# Altium schematic symbol library Texas Instruments.SchLib: 119 symbols
Pins are listed as number, name and electrical type; pins without a type are passive.

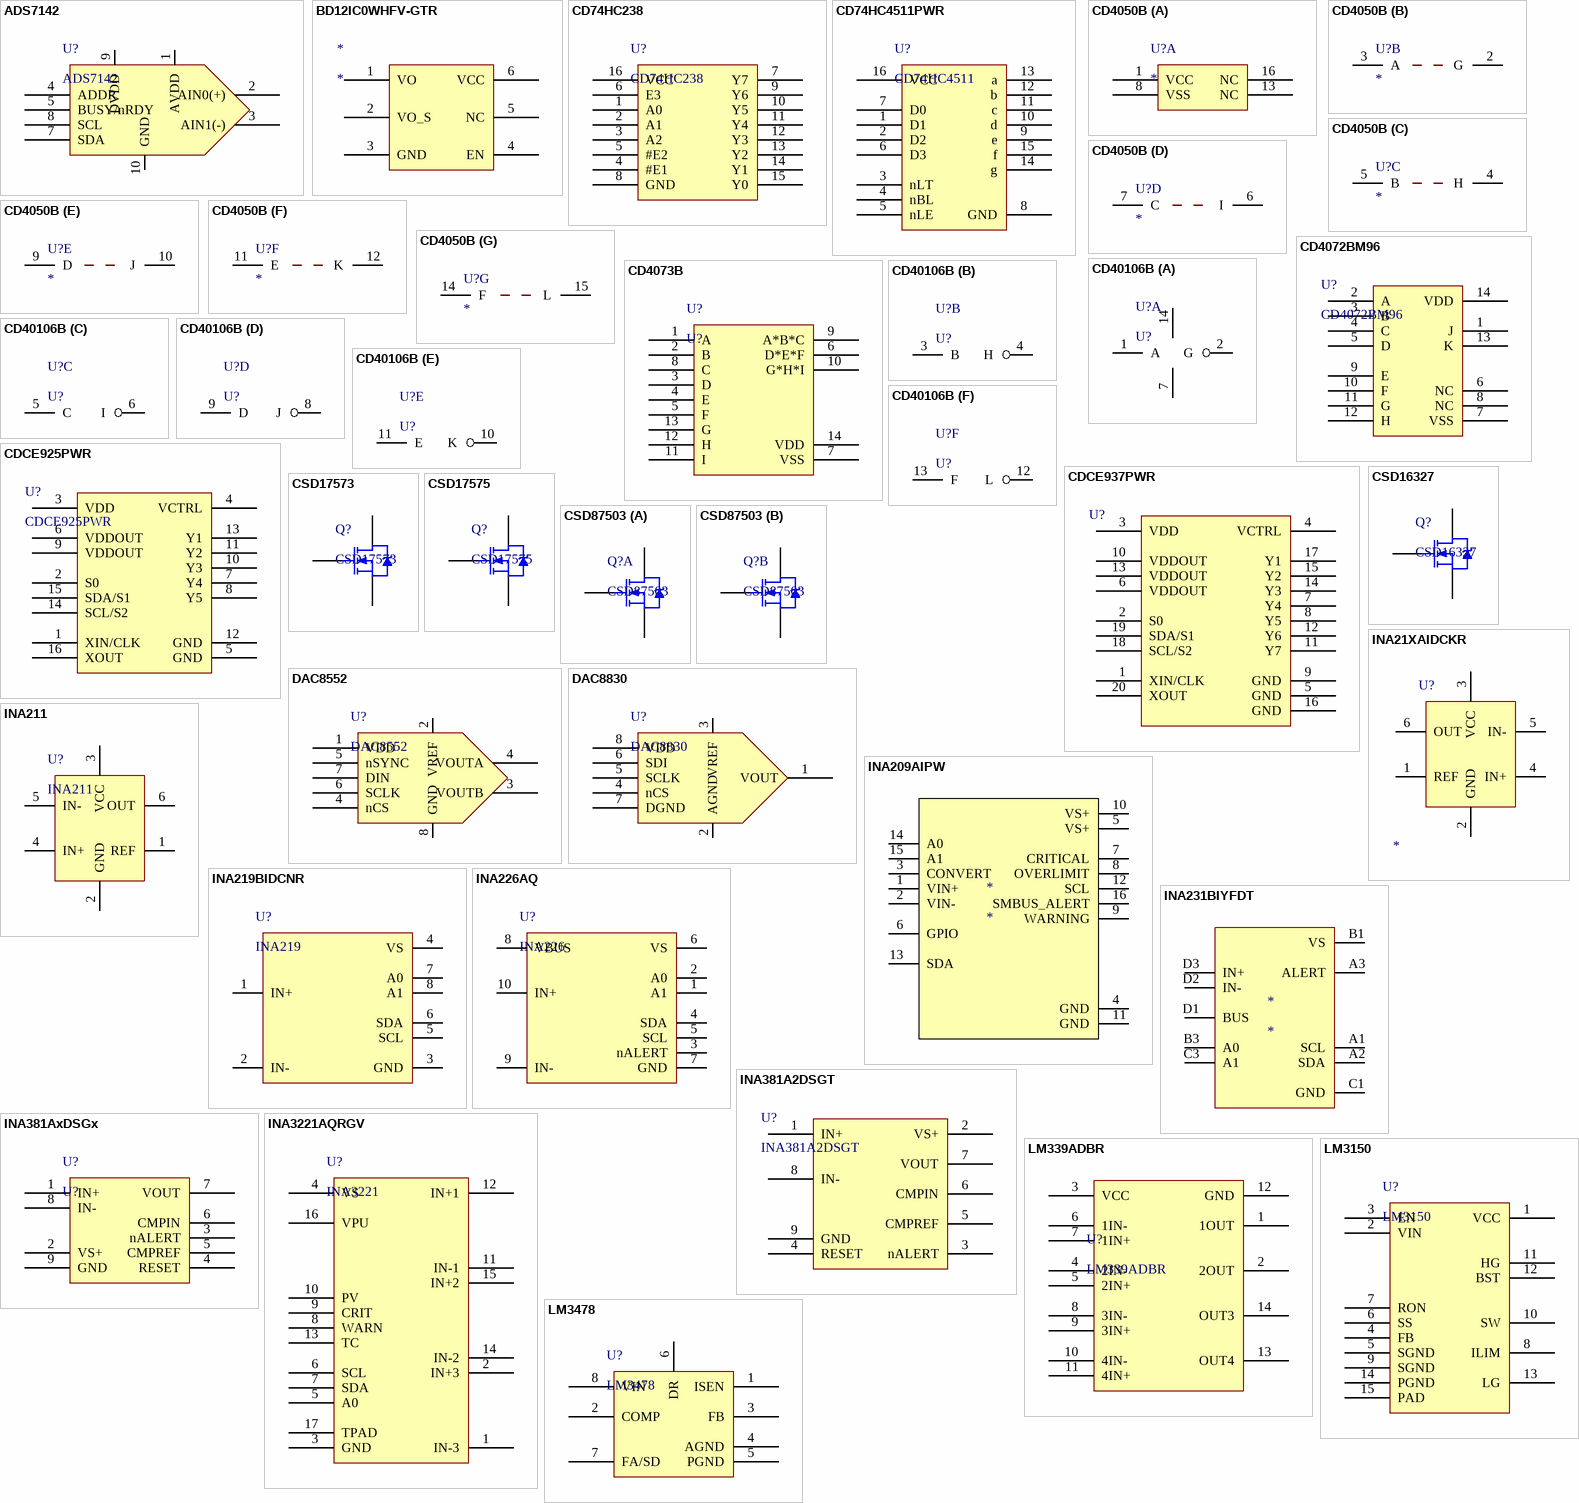
[diagram p0: symbols ADS7142 to LM3478]

## ADS7142
designator U?
pins: 1 AVDD, 2 AIN0(+), 3 AIN1(-), 4 ADDR, 5 BUSY/nRDY, 7 SDA, 8 SCL, 9 DVDD, 10 GND

## BD12IC0WHFV-GTR
designator *
pins: 1 VO, 2 VO_S, 3 GND, 4 EN, 5 NC, 6 VCC

## CD74HC238
designator U?
pins: 1 A0, 2 A1, 3 A2, 4 #E1, 5 #E2, 6 E3, 7 Y7, 8 GND, 9 Y6, 10 Y5, 11 Y4, 12 Y3, 13 Y2, 14 Y1, 15 Y0, 16 VCC

## CD74HC4511PWR
designator U?, comment CD74HC4511
pins: 1 D1, 2 D2, 3 nLT, 4 nBL, 5 nLE, 6 D3, 7 D0, 8 GND, 9 e, 10 d, 11 c, 12 b, 13 a, 14 g, 15 f, 16 VCC

## CD4050B
designator U?
part A pins: 1 VCC, 8 VSS, 13 NC, 16 NC
part B pins: 2 G, 3 A
part C pins: 4 H, 5 B
part D pins: 6 I, 7 C
part E pins: 9 D, 10 J
part F pins: 11 E, 12 K
part G pins: 14 F, 15 L

## CD4072BM96
designator U?
pins: 1 J, 2 A, 3 B, 4 C, 5 D, 6 NC, 7 VSS, 8 NC, 9 E, 10 F, 11 G, 12 H, 13 K, 14 VDD

## CD4073B
designator U?, comment U?
pins: 1 A, 2 B, 3 D, 4 E, 5 F, 6 D*E*F, 7 VSS, 8 C, 9 A*B*C, 10 G*H*I, 11 I, 12 H, 13 G, 14 VDD

## CD40106B
designator U?, comment U?
part A pins: 1 A, 2 G, 7 VSS, 14 VDD
part B pins: 3 B, 4 H
part C pins: 5 C, 6 I
part D pins: 8 J, 9 D
part E pins: 10 K, 11 E
part F pins: 12 L, 13 F

## CDCE925PWR
designator U?
pins: 1 XIN/CLK, 2 S0, 3 VDD, 4 VCTRL, 5 GND, 6 VDDOUT, 7 Y4, 8 Y5, 9 VDDOUT, 10 Y3, 11 Y2, 12 GND, 13 Y1, 14 SCL/S2, 15 SDA/S1, 16 XOUT

## CDCE937PWR
designator U?  (value not drawn)
pins: 1 XIN/CLK, 2 S0, 3 VDD, 4 VCTRL, 5 GND, 6 VDDOUT, 7 Y4, 8 Y5, 9 GND, 10 VDDOUT, 11 Y7, 12 Y6, 13 VDDOUT, 14 Y3, 15 Y2, 16 GND, 17 Y1, 18 SCL/S2, 19 SDA/S1, 20 XOUT

## CSD16327
designator Q?
pins: 1 G, 2 D, 3 S

## CSD17573
designator Q?
pins: 1 G, 2 D, 3 S

## CSD17575
designator Q?
pins: 1 G, 2 D, 3 S

## CSD87503
designator Q?
part A pins: 1 G, 2 S, 6 D
part B pins: 3 G, 4 S, 5 D

## DAC8552
designator U?
pins: 1 VDD, 2 VREF, 3 VOUTB, 4 VOUTA, 4 nCS, 5 nSYNC, 6 SCLK, 7 DIN, 8 GND

## DAC8830
designator U?
pins: 1 VOUT, 2 AGND, 3 VREF, 4 nCS, 5 SCLK, 6 SDI, 7 DGND, 8 VDD

## INA21XAIDCKR
designator U?
Value: *
pins: 1 REF, 2 GND, 3 VCC, 4 IN+, 5 IN-, 6 OUT

## INA209AIPW
designator *
pins: 1 VIN+, 2 VIN-, 3 CONVERT, 4 GND (power), 5 VS+ (power), 6 GPIO, 7 CRITICAL, 8 OVERLIMIT, 9 WARNING, 10 VS+ (power), 11 GND (power), 12 SCL, 13 SDA, 14 A0, 15 A1, 16 SMBUS_ALERT

## INA211
designator U?
pins: 1 REF, 2 GND, 3 VCC, 4 IN+, 5 IN-, 6 OUT

## INA219BIDCNR
designator U?, comment INA219
pins: 1 IN+, 2 IN-, 3 GND, 4 VS, 5 SCL, 6 SDA, 7 A0, 8 A1

## INA226AQ
designator U?, comment INA226
pins: 1 A1, 2 A0, 3 nALERT, 4 SDA, 5 SCL, 6 VS, 7 GND, 8 VBUS, 9 IN-, 10 IN+

## INA231BIYFDT
designator *
pins: A1 SCL, A2 SDA, A3 ALERT, B1 VS (power), B3 A0, C1 GND (power), C3 A1, D1 BUS, D2 IN-, D3 IN+

## INA381A2DSGT
designator U?
pins: 1 IN+, 2 VS+, 3 nALERT, 4 RESET, 5 CMPREF, 6 CMPIN, 7 VOUT, 8 IN-, 9 GND

## INA381AxDSGx
designator U?, comment U?
pins: 1 IN+, 2 VS+, 3 nALERT, 4 RESET, 5 CMPREF, 6 CMPIN, 7 VOUT, 8 IN-, 9 GND

## INA3221AQRGV
designator U?, comment INA3221
pins: 1 IN-3, 2 IN+3, 3 GND, 4 VS, 5 A0, 6 SCL, 7 SDA, 8 WARN, 9 CRIT, 10 PV, 11 IN-1, 12 IN+1, 13 TC, 14 IN-2, 15 IN+2, 16 VPU, 17 TPAD

## LM339ADBR
designator U?
pins: 1 1OUT, 2 2OUT, 3 VCC, 4 2IN-, 5 2IN+, 6 1IN-, 7 1IN+, 8 3IN-, 9 3IN+, 10 4IN-, 11 4IN+, 12 GND, 13 OUT4, 14 OUT3

## LM3150
designator U?
pins: 1 VCC, 2 VIN, 3 EN, 4 FB, 5 SGND, 6 SS, 7 RON, 8 ILIM, 9 SGND, 10 SW, 11 HG, 12 BST, 13 LG, 14 PGND, 15 PAD

## LM3478
designator U?
pins: 1 ISEN, 2 COMP, 3 FB, 4 AGND, 5 PGND, 6 DR, 7 FA/SD, 8 VIN

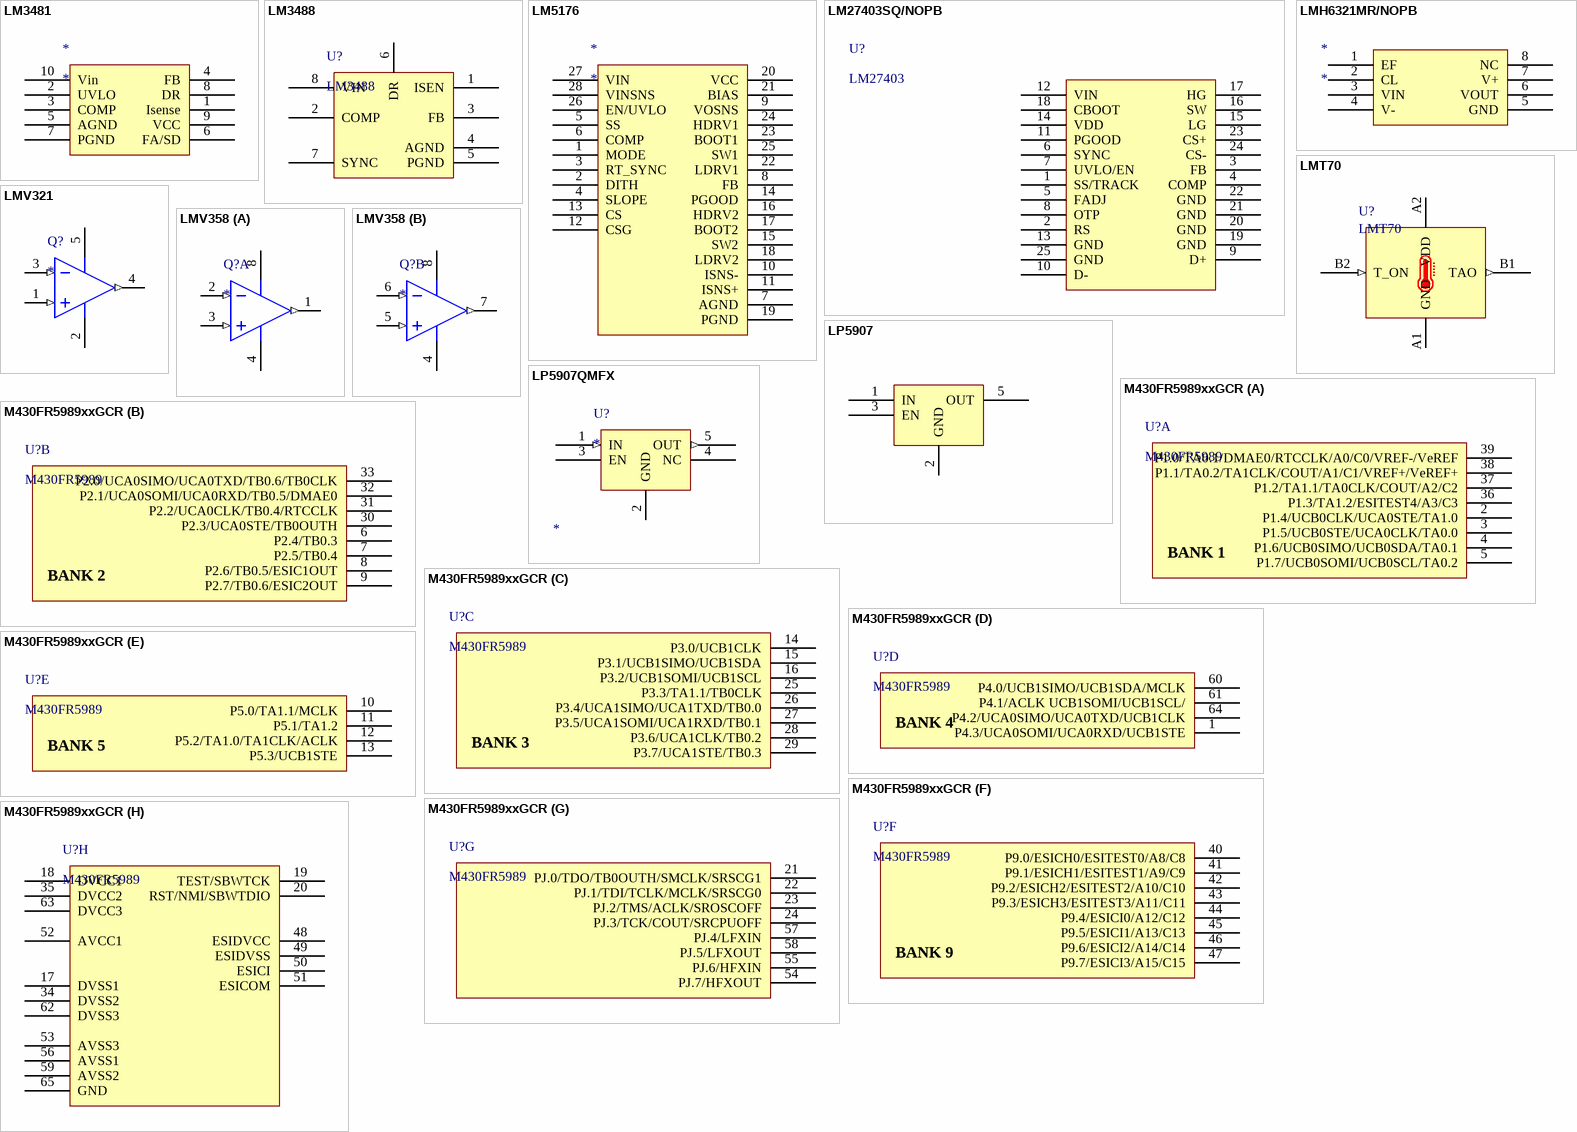
[diagram p1: symbols LM3481 to M430FR5989xxGCR]

## LM3481
designator *
pins: 1 Isense, 2 UVLO, 3 COMP, 4 FB, 5 AGND, 6 FA/SD, 7 PGND, 8 DR, 9 VCC, 10 Vin

## LM3488
designator U?
pins: 1 ISEN, 2 COMP, 3 FB, 4 AGND, 5 PGND, 6 DR, 7 SYNC, 8 VIN

## LM5176
designator *
pins: 1 MODE, 2 DITH, 3 RT_SYNC, 4 SLOPE, 5 SS, 6 COMP, 7 AGND, 8 FB, 9 VOSNS, 10 ISNS-, 11 ISNS+, 12 CSG, 13 CS, 14 PGOOD, 15 SW2, 16 HDRV2, 17 BOOT2, 18 LDRV2, 19 PGND, 20 VCC, 21 BIAS, 22 LDRV1, 23 BOOT1, 24 HDRV1, 25 SW1, 26 EN/UVLO, 27 VIN, 28 VINSNS

## LM27403SQ/NOPB
designator U?, comment LM27403
pins: 1 SS/TRACK, 2 RS, 3 FB, 4 COMP, 5 FADJ, 6 SYNC, 7 UVLO/EN, 8 OTP, 9 D+, 10 D-, 11 PGOOD, 12 VIN, 13 GND, 14 VDD, 15 LG, 16 SW, 17 HG, 18 CBOOT, 19 GND, 20 GND, 21 GND, 22 GND, 23 CS+, 24 CS-, 25 GND

## LMH6321MR/NOPB
designator *
pins: 1 EF, 2 CL, 3 VIN, 4 V-, 5 GND, 6 VOUT, 7 V+, 8 NC

## LMT70
designator U?
pins: A1 GND (power), A2 VDD (power), B1 TAO (out), B2 T_ON (in)

## LMV321
designator Q?
pins: 1 IN+ (in), 2 V- (power), 3 IN- (in), 4 OUT (out), 5 V+ (power)

## LMV358
designator Q?
part A pins: 1 OUT (out), 2 IN- (in), 3 IN+ (in), 4 V- (power), 8 V+ (power)
part B pins: 4 V- (power), 5 IN+ (in), 6 IN- (in), 7 OUT (out), 8 V+ (power)

## LP5907
designator U?
pins: 1 IN, 2 GND, 3 EN, 4 NC hidden to GND, 5 OUT

## LP5907QMFX
designator U?
Voltage - Dropout (Typical): *; Value: *
pins: 1 IN (in), 2 GND, 3 EN "Active High", 4 NC, 5 OUT (out)

## M430FR5989xxGCR
designator U?, comment M430FR5989
part A pins: 2 P1.4/UCB0CLK/UCA0STE/TA1.0, 3 P1.5/UCB0STE/UCA0CLK/TA0.0, 4 P1.6/UCB0SIMO/UCB0SDA/TA0.1, 5 P1.7/UCB0SOMI/UCB0SCL/TA0.2, 36 P1.3/TA1.2/ESITEST4/A3/C3, 37 P1.2/TA1.1/TA0CLK/COUT/A2/C2, 38 P1.1/TA0.2/TA1CLK/COUT/A1/C1/VREF+/VeREF+, 39 P1.0/TA0.1/DMAE0/RTCCLK/A0/C0/VREF-/VeREF
part B pins: 6 P2.4/TB0.3, 7 P2.5/TB0.4, 8 P2.6/TB0.5/ESIC1OUT, 9 P2.7/TB0.6/ESIC2OUT, 30 P2.3/UCA0STE/TB0OUTH, 31 P2.2/UCA0CLK/TB0.4/RTCCLK, 32 P2.1/UCA0SOMI/UCA0RXD/TB0.5/DMAE0, 33 P2.0/UCA0SIMO/UCA0TXD/TB0.6/TB0CLK
part C pins: 14 P3.0/UCB1CLK, 15 P3.1/UCB1SIMO/UCB1SDA, 16 P3.2/UCB1SOMI/UCB1SCL, 25 P3.3/TA1.1/TB0CLK, 26 P3.4/UCA1SIMO/UCA1TXD/TB0.0, 27 P3.5/UCA1SOMI/UCA1RXD/TB0.1, 28 P3.6/UCA1CLK/TB0.2, 29 P3.7/UCA1STE/TB0.3
part D pins: 1 P4.3/UCA0SOMI/UCA0RXD/UCB1STE, 60 P4.0/UCB1SIMO/UCB1SDA/MCLK, 61 P4.1/ACLK UCB1SOMI/UCB1SCL/, 64 P4.2/UCA0SIMO/UCA0TXD/UCB1CLK
part E pins: 10 P5.0/TA1.1/MCLK, 11 P5.1/TA1.2, 12 P5.2/TA1.0/TA1CLK/ACLK, 13 P5.3/UCB1STE
part F pins: 40 P9.0/ESICH0/ESITEST0/A8/C8, 41 P9.1/ESICH1/ESITEST1/A9/C9, 42 P9.2/ESICH2/ESITEST2/A10/C10, 43 P9.3/ESICH3/ESITEST3/A11/C11, 44 P9.4/ESICI0/A12/C12, 45 P9.5/ESICI1/A13/C13, 46 P9.6/ESICI2/A14/C14, 47 P9.7/ESICI3/A15/C15
part G pins: 21 PJ.0/TDO/TB0OUTH/SMCLK/SRSCG1, 22 PJ.1/TDI/TCLK/MCLK/SRSCG0, 23 PJ.2/TMS/ACLK/SROSCOFF, 24 PJ.3/TCK/COUT/SRCPUOFF, 54 PJ.7/HFXOUT, 55 PJ.6/HFXIN, 57 PJ.4/LFXIN, 58 PJ.5/LFXOUT
part H pins: 17 DVSS1, 18 DVCC1, 19 TEST/SBWTCK, 20 RST/NMI/SBWTDIO, 34 DVSS2, 35 DVCC2, 48 ESIDVCC, 49 ESIDVSS, 50 ESICI, 51 ESICOM, 52 AVCC1, 53 AVSS3, 56 AVSS1, 59 AVSS2, 62 DVSS3, 63 DVCC3, 65 GND
part A text: BANK 1
part B text: BANK 2
part C text: BANK 3
part D text: BANK 4
part E text: BANK 5
part F text: BANK 9

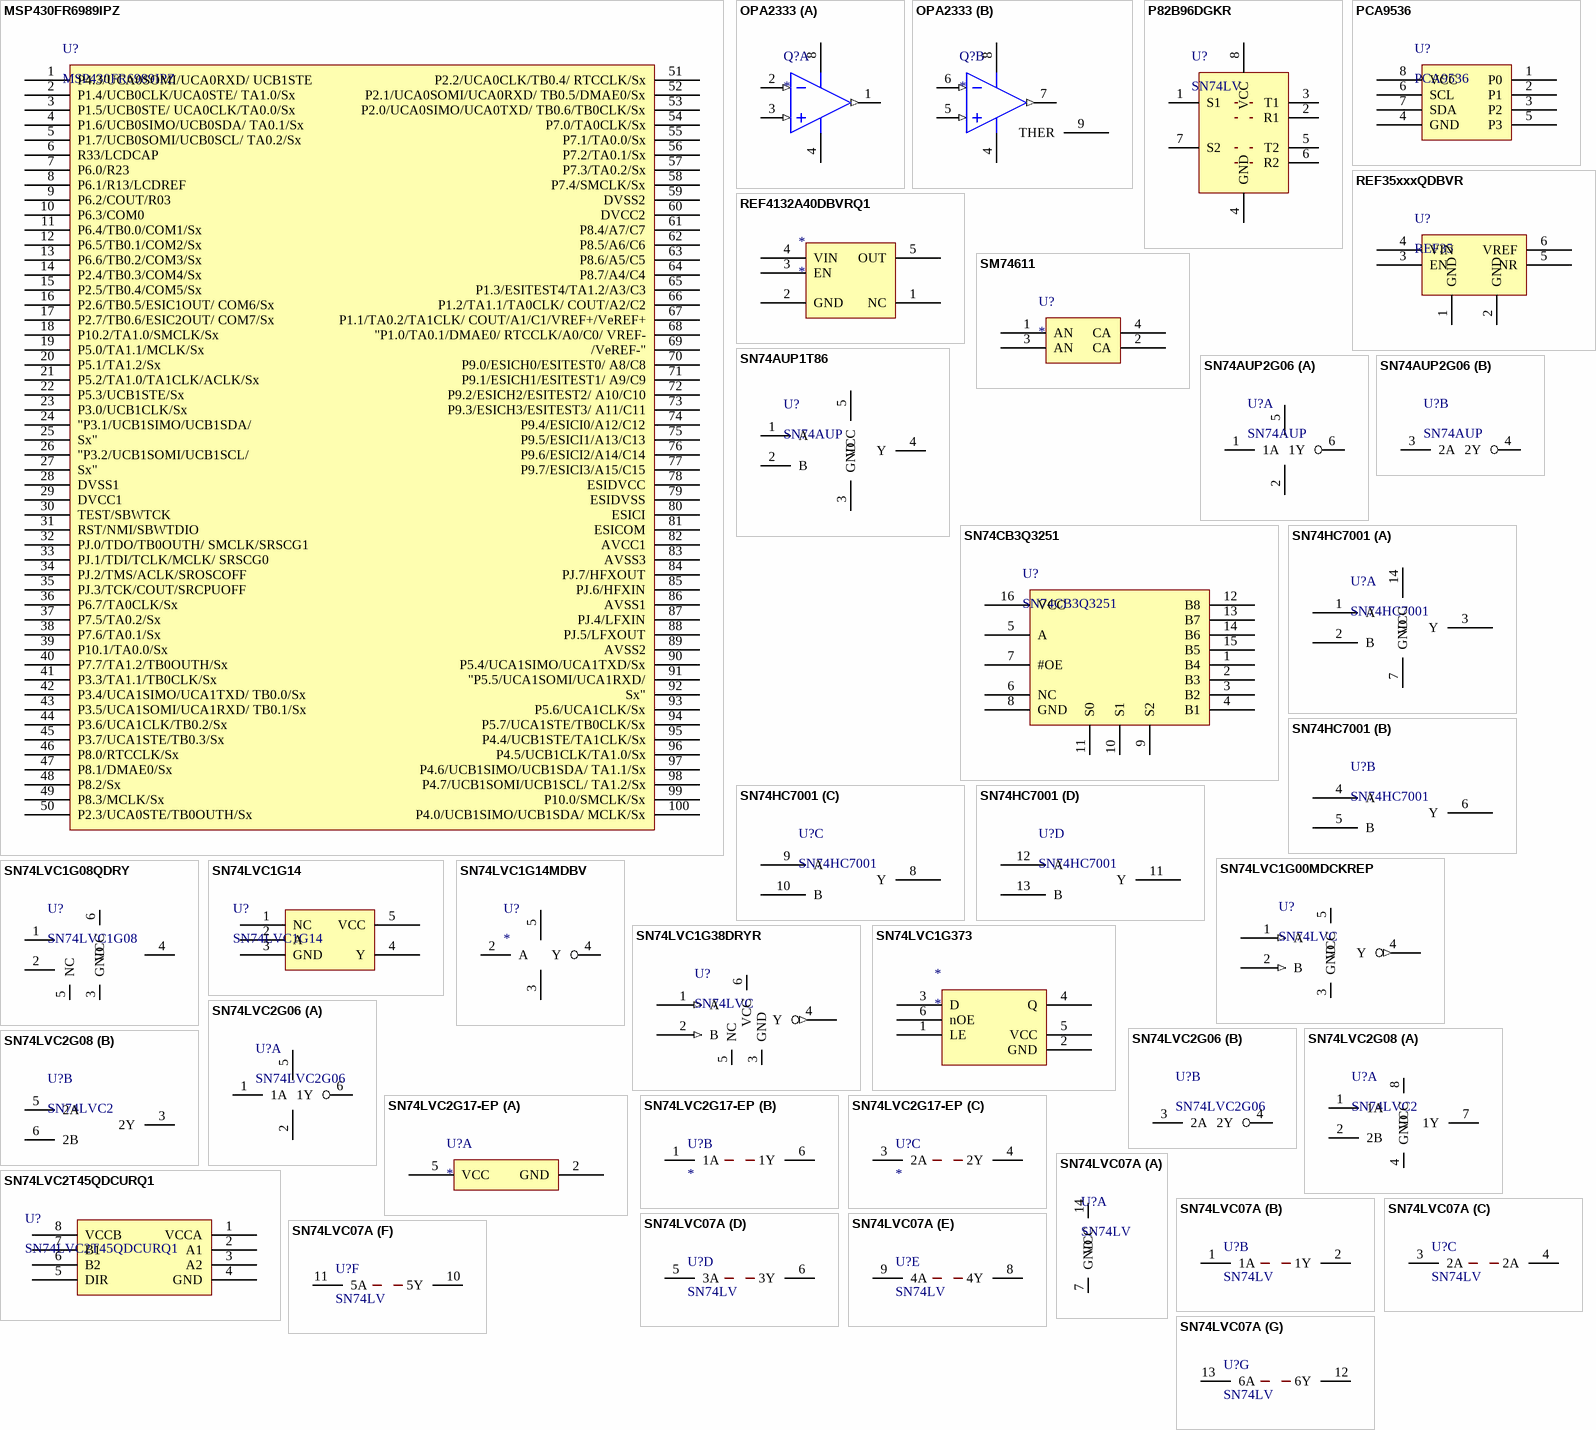
[diagram p2: symbols MSP430FR6989IPZ to SN74LVC07A]

## MSP430FR6989IPZ
designator U?
pins: 1 P4.3/UCA0SOMI/UCA0RXD/ UCB1STE, 2 P1.4/UCB0CLK/UCA0STE/ TA1.0/Sx, 3 P1.5/UCB0STE/ UCA0CLK/TA0.0/Sx, 4 P1.6/UCB0SIMO/UCB0SDA/ TA0.1/Sx, 5 P1.7/UCB0SOMI/UCB0SCL/ TA0.2/Sx, 6 R33/LCDCAP, 7 P6.0/R23, 8 P6.1/R13/LCDREF, 9 P6.2/COUT/R03, 10 P6.3/COM0, 11 P6.4/TB0.0/COM1/Sx, 12 P6.5/TB0.1/COM2/Sx, 13 P6.6/TB0.2/COM3/Sx, 14 P2.4/TB0.3/COM4/Sx, 15 P2.5/TB0.4/COM5/Sx, 16 P2.6/TB0.5/ESIC1OUT/ COM6/Sx, 17 P2.7/TB0.6/ESIC2OUT/ COM7/Sx, 18 P10.2/TA1.0/SMCLK/Sx, 19 P5.0/TA1.1/MCLK/Sx, 20 P5.1/TA1.2/Sx, 21 P5.2/TA1.0/TA1CLK/ACLK/Sx, 22 P5.3/UCB1STE/Sx, 23 P3.0/UCB1CLK/Sx, 24 "P3.1/UCB1SIMO/UCB1SDA/, 25 Sx", 26 "P3.2/UCB1SOMI/UCB1SCL/, 27 Sx", 28 DVSS1, 29 DVCC1, 30 TEST/SBWTCK, 31 RST/NMI/SBWTDIO, 32 PJ.0/TDO/TB0OUTH/ SMCLK/SRSCG1, 33 PJ.1/TDI/TCLK/MCLK/ SRSCG0, 34 PJ.2/TMS/ACLK/SROSCOFF, 35 PJ.3/TCK/COUT/SRCPUOFF, 36 P6.7/TA0CLK/Sx, 37 P7.5/TA0.2/Sx, 38 P7.6/TA0.1/Sx, 39 P10.1/TA0.0/Sx, 40 P7.7/TA1.2/TB0OUTH/Sx, 41 P3.3/TA1.1/TB0CLK/Sx, 42 P3.4/UCA1SIMO/UCA1TXD/ TB0.0/Sx, 43 P3.5/UCA1SOMI/UCA1RXD/ TB0.1/Sx, 44 P3.6/UCA1CLK/TB0.2/Sx, 45 P3.7/UCA1STE/TB0.3/Sx, 46 P8.0/RTCCLK/Sx, 47 P8.1/DMAE0/Sx, 48 P8.2/Sx, 49 P8.3/MCLK/Sx, 50 P2.3/UCA0STE/TB0OUTH/Sx, 51 P2.2/UCA0CLK/TB0.4/ RTCCLK/Sx, 52 P2.1/UCA0SOMI/UCA0RXD/ TB0.5/DMAE0/Sx, 53 P2.0/UCA0SIMO/UCA0TXD/ TB0.6/TB0CLK/Sx, 54 P7.0/TA0CLK/Sx, 55 P7.1/TA0.0/Sx, 56 P7.2/TA0.1/Sx, 57 P7.3/TA0.2/Sx, 58 P7.4/SMCLK/Sx, 59 DVSS2, 60 DVCC2, 61 P8.4/A7/C7, 62 P8.5/A6/C6, 63 P8.6/A5/C5, 64 P8.7/A4/C4, 65 P1.3/ESITEST4/TA1.2/A3/C3, 66 P1.2/TA1.1/TA0CLK/ COUT/A2/C2, 67 P1.1/TA0.2/TA1CLK/ COUT/A1/C1/VREF+/VeREF+, 68 "P1.0/TA0.1/DMAE0/ RTCCLK/A0/C0/ VREF-, 69 /VeREF-", 70 P9.0/ESICH0/ESITEST0/ A8/C8, 71 P9.1/ESICH1/ESITEST1/ A9/C9, 72 P9.2/ESICH2/ESITEST2/ A10/C10, 73 P9.3/ESICH3/ESITEST3/ A11/C11, 74 P9.4/ESICI0/A12/C12, 75 P9.5/ESICI1/A13/C13, 76 P9.6/ESICI2/A14/C14, 77 P9.7/ESICI3/A15/C15, 78 ESIDVCC, 79 ESIDVSS, 80 ESICI, 81 ESICOM, 82 AVCC1, 83 AVSS3, 84 PJ.7/HFXOUT, 85 PJ.6/HFXIN, 86 AVSS1, 87 PJ.4/LFXIN, 88 PJ.5/LFXOUT, 89 AVSS2, 90 P5.4/UCA1SIMO/UCA1TXD/Sx, 91 "P5.5/UCA1SOMI/UCA1RXD/, 92 Sx", 93 P5.6/UCA1CLK/Sx, 94 P5.7/UCA1STE/TB0CLK/Sx, 95 P4.4/UCB1STE/TA1CLK/Sx, 96 P4.5/UCB1CLK/TA1.0/Sx, 97 P4.6/UCB1SIMO/UCB1SDA/ TA1.1/Sx, 98 P4.7/UCB1SOMI/UCB1SCL/ TA1.2/Sx, 99 P10.0/SMCLK/Sx, 100 P4.0/UCB1SIMO/UCB1SDA/ MCLK/Sx

## OPA2333
designator Q?
part A pins: 1 OUT (out), 2 IN- (in), 3 IN+ (in), 4 V- (power), 8 V+ (power)
part B pins: 4 V- (power), 5 IN+ (in), 6 IN- (in), 7 OUT (out), 8 V+ (power), 9 THER

## P82B96DGKR
designator U?, comment SN74LV
pins: 1 S1, 2 R1, 3 T1, 4 GND, 5 T2, 6 R2, 7 S2, 8 VCC

## PCA9536
designator U?
pins: 1 P0, 2 P1, 3 P2, 4 GND, 5 P3, 6 SCL, 7 SDA, 8 VCC

## REF35xxxQDBVR
designator U?, comment REF35
pins: 1 GND, 2 GND, 3 EN, 4 VIN, 5 NR, 6 VREF

## REF4132A40DBVRQ1
designator *
pins: 1 NC, 2 GND, 3 EN, 4 VIN, 5 OUT

## SM74611
designator U?
pins: 1 AN, 2 CA, 3 AN, 4 CA

## SN74AUP1T86
designator U?, comment SN74AUP
pins: 1 A, 2 B, 3 GND, 4 Y, 5 VCC

## SN74AUP2G06
designator U?, comment SN74AUP
part A pins: 1 1A, 2 GND, 5 VCC, 6 1Y
part B pins: 3 2A, 4 2Y

## SN74CB3Q3251
designator U?
pins: 1 B4, 2 B3, 3 B2, 4 B1, 5 A, 6 NC, 7 #OE, 8 GND, 9 S2, 10 S1, 11 S0, 12 B8, 13 B7, 14 B6, 15 B5, 16 VCC

## SN74HC7001
designator U?
part A pins: 1 A, 2 B, 3 Y, 7 GND, 14 VCC
part B pins: 4 A, 5 B, 6 Y
part C pins: 8 Y, 9 A, 10 B
part D pins: 11 Y, 12 A, 13 B

## SN74LVC1G00MDCKREP
designator U?, comment SN74LVC
pins: 1 A (in), 2 B (in), 3 GND (power), 4 Y (out), 5 VCC (power)

## SN74LVC1G08QDRY
designator U?, comment SN74LVC1G08
pins: 1 A, 2 B, 3 GND, 4 Y, 5 NC, 6 VCC

## SN74LVC1G14
designator U?
pins: 1 NC, 2 A, 3 GND, 4 Y, 5 VCC

## SN74LVC1G14MDBV
designator U?
pins: 1 NC, 2 A, 3 GND, 4 Y, 5 VCC

## SN74LVC1G38DRYR
designator U?, comment SN74LVC
pins: 1 A (in), 2 B (in), 3 GND (power), 4 Y (out), 5 NC (power), 6 VCC (power)

## SN74LVC1G373
designator *
pins: 1 LE, 2 GND, 3 D, 4 Q, 5 VCC, 6 nOE

## SN74LVC2G06
designator U?
part A pins: 1 1A, 2 GND, 5 VCC, 6 1Y
part B pins: 3 2A, 4 2Y

## SN74LVC2G08
designator U?, comment SN74LVC2
part A pins: 1 1A, 2 2B, 4 GND, 7 1Y, 8 VCC
part B pins: 3 2Y, 5 2A, 6 2B

## SN74LVC2G17-EP
designator U?
part A pins: 2 GND, 5 VCC
part B pins: 1 1A, 6 1Y
part C pins: 3 2A, 4 2Y

## SN74LVC2T45QDCURQ1
designator U?
pins: 1 VCCA, 2 A1, 3 A2, 4 GND, 5 DIR, 6 B2, 7 B1, 8 VCCB

## SN74LVC07A
designator U?, comment SN74LV
part A pins: 7 GND, 14 VCC
part B pins: 1 1A, 2 1Y
part C pins: 3 2A, 4 2A
part D pins: 5 3A, 6 3Y
part E pins: 8 4Y, 9 4A
part F pins: 10 5Y, 11 5A
part G pins: 12 6Y, 13 6A

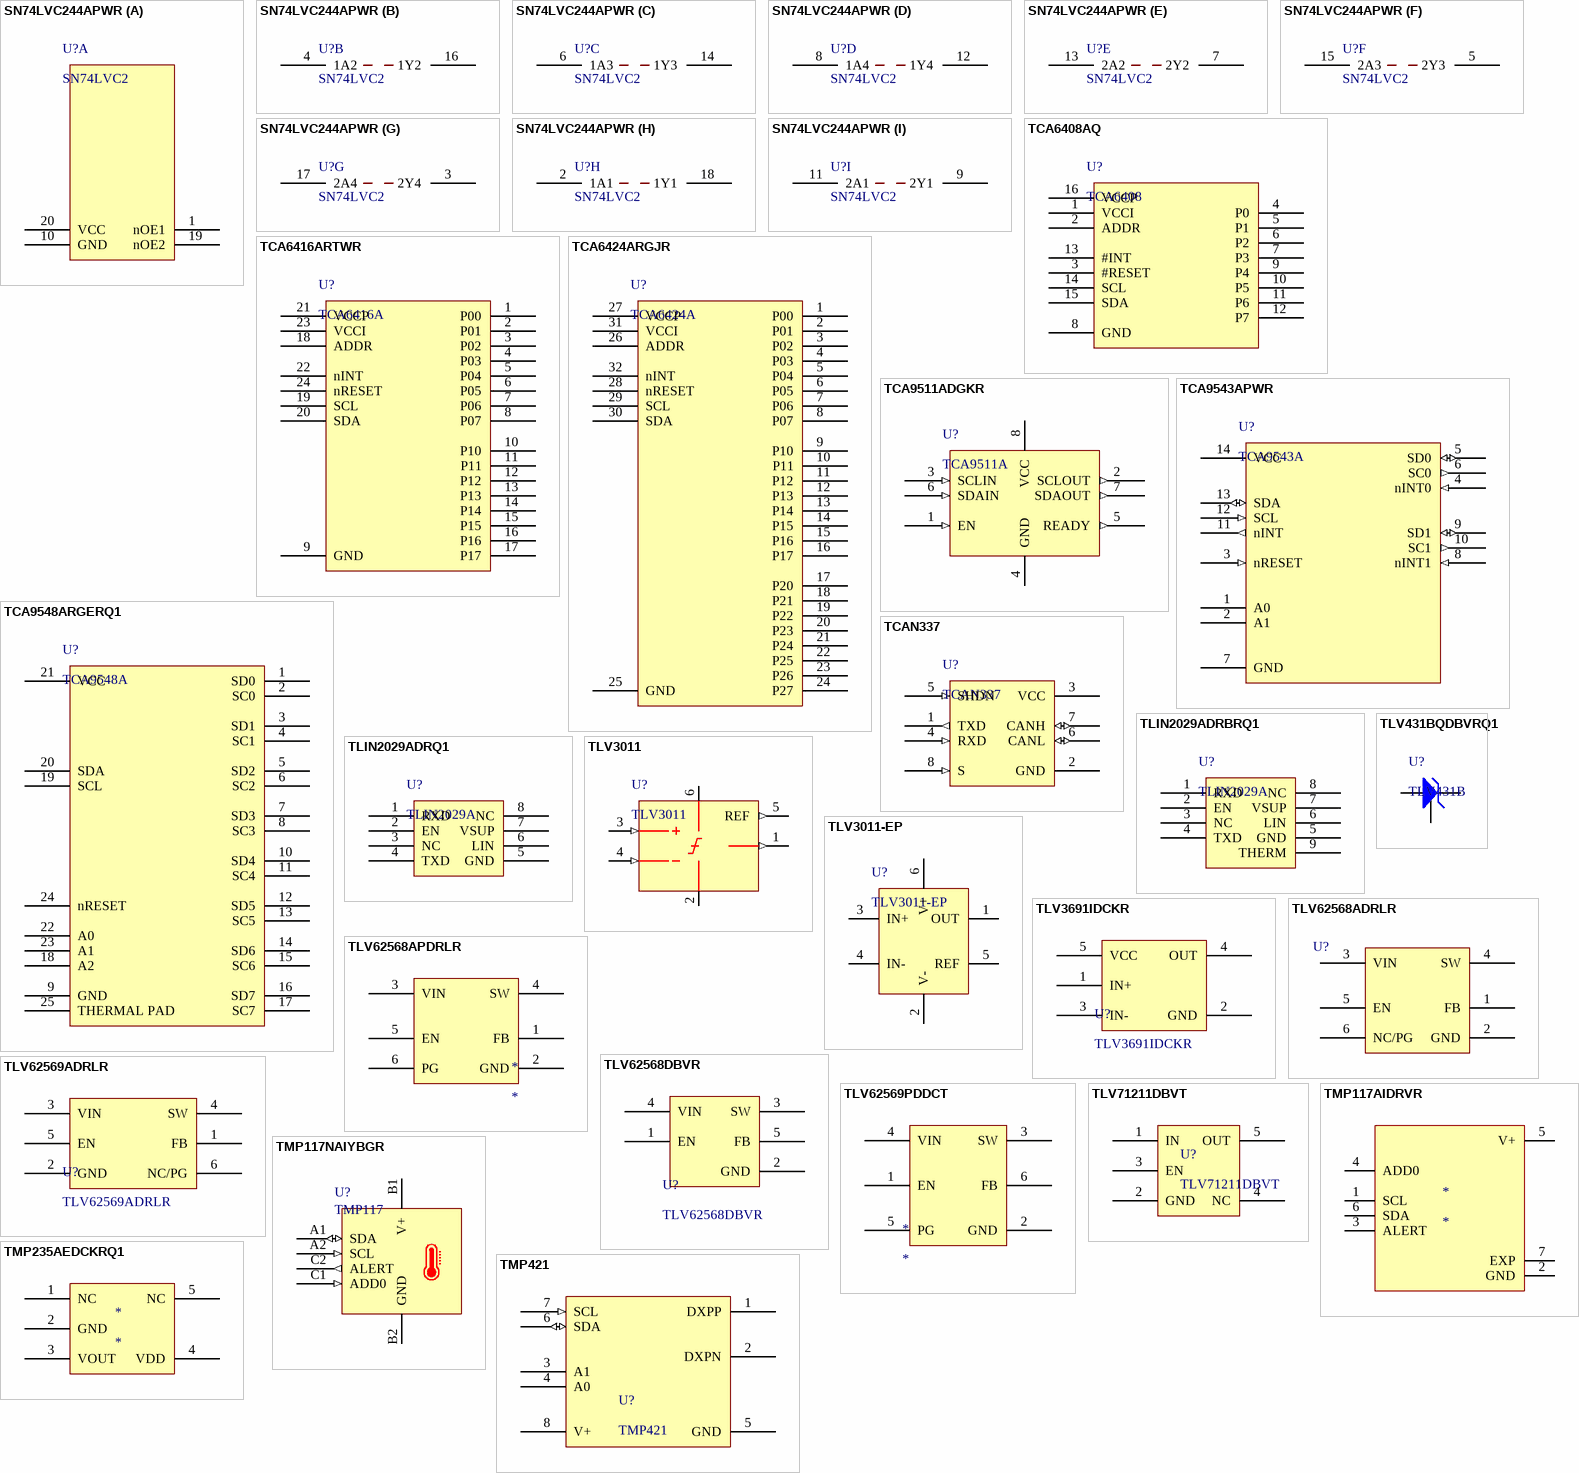
[diagram p3: symbols SN74LVC244APWR to TMP421]

## SN74LVC244APWR
designator U?, comment SN74LVC2
part A pins: 1 nOE1, 10 GND, 19 nOE2, 20 VCC
part B pins: 4 1A2, 16 1Y2
part C pins: 6 1A3, 14 1Y3
part D pins: 8 1A4, 12 1Y4
part E pins: 7 2Y2, 13 2A2
part F pins: 5 2Y3, 15 2A3
part G pins: 3 2Y4, 17 2A4
part H pins: 2 1A1, 18 1Y1
part I pins: 9 2Y1, 11 2A1

## TCA6408AQ
designator U?, comment TCA6408
pins: 1 VCCI, 2 ADDR, 3 #RESET, 4 P0, 5 P1, 6 P2, 7 P3, 8 GND, 9 P4, 10 P5, 11 P6, 12 P7, 13 #INT, 14 SCL, 15 SDA, 16 VCCP

## TCA6416ARTWR
designator U?, comment TCA6416A
pins: 1 P00, 2 P01, 3 P02, 4 P03, 5 P04, 6 P05, 7 P06, 8 P07, 9 GND, 10 P10, 11 P11, 12 P12, 13 P13, 14 P14, 15 P15, 16 P16, 17 P17, 18 ADDR, 19 SCL, 20 SDA, 21 VCCP, 22 nINT, 23 VCCI, 24 nRESET

## TCA6424ARGJR
designator U?, comment TCA6424A
pins: 1 P00, 2 P01, 3 P02, 4 P03, 5 P04, 6 P05, 7 P06, 8 P07, 9 P10, 10 P11, 11 P12, 12 P13, 13 P14, 14 P15, 15 P16, 16 P17, 17 P20, 18 P21, 19 P22, 20 P23, 21 P24, 22 P25, 23 P26, 24 P27, 25 GND, 26 ADDR, 27 VCCP, 28 nRESET, 29 SCL, 30 SDA, 31 VCCI, 32 nINT

## TCA9511ADGKR
designator U?, comment TCA9511A
pins: 1 EN (in), 2 SCLOUT (out), 3 SCLIN (in), 4 GND (power), 5 READY (out), 6 SDAIN (in), 7 SDAOUT (out), 8 VCC (power)

## TCA9543APWR
designator U?, comment TCA9543A
pins: 1 A0, 2 A1, 3 nRESET (in), 4 nINT0 (in), 5 SD0 (io), 6 SC0 (out), 7 GND (power), 8 nINT1 (in), 9 SD1 (io), 10 SC1 (out), 11 nINT (out), 12 SCL (in), 13 SDA (io), 14 VCC (power)

## TCA9548ARGERQ1
designator U?, comment TCA9548A
pins: 1 SD0, 2 SC0, 3 SD1, 4 SC1, 5 SD2, 6 SC2, 7 SD3, 8 SC3, 9 GND, 10 SD4, 11 SC4, 12 SD5, 13 SC5, 14 SD6, 15 SC6, 16 SD7, 17 SC7, 18 A2, 19 SCL, 20 SDA, 21 VCC, 22 A0, 23 A1, 24 nRESET, 25 THERMAL PAD

## TCAN337
designator U?
pins: 1 TXD (out), 2 GND (power), 3 VCC (power), 4 RXD (in), 5 SHDN (in), 6 CANL (io), 7 CANH (io), 8 S (in)

## TLIN2029ADRBRQ1
designator U?, comment TLIN2029A
pins: 1 RXD, 2 EN, 3 NC, 4 TXD, 5 GND, 6 LIN, 7 VSUP, 8 NC, 9 THERM

## TLIN2029ADRQ1
designator U?, comment TLIN2029A
pins: 1 RXD, 2 EN, 3 NC, 4 TXD, 5 GND, 6 LIN, 7 VSUP, 8 NC

## TLV431BQDBVRQ1
designator U?, comment TLV431B
pins: 1 NC, 2 ANODE, 3 CATHODE, 4 REF, 5 ANODE

## TLV3011
designator U?
pins: 1 OUT (out), 2 V- (power), 3 IN+ (in), 4 IN- (in), 5 REF (out), 6 V+ (power)

## TLV3011-EP
designator U?
pins: 1 OUT, 2 V-, 3 IN+, 4 IN-, 5 REF, 6 V+

## TLV3691IDCKR
designator U?
pins: 1 IN+, 2 GND, 3 IN-, 4 OUT, 5 VCC

## TLV62568ADRLR
designator U?  (value not drawn)
pins: 1 FB, 2 GND, 3 VIN, 4 SW, 5 EN, 6 NC/PG

## TLV62568APDRLR
designator *
pins: 1 FB, 2 GND, 3 VIN, 4 SW, 5 EN, 6 PG

## TLV62568DBVR
designator U?
pins: 1 EN, 2 GND, 3 SW, 4 VIN, 5 FB

## TLV62569ADRLR
designator U?
pins: 1 FB, 2 GND, 3 VIN, 4 SW, 5 EN, 6 NC/PG

## TLV62569PDDCT
designator *
pins: 1 EN, 2 GND, 3 SW, 4 VIN, 5 PG, 6 FB

## TLV71211DBVT
designator U?
pins: 1 IN, 2 GND, 3 EN, 4 NC, 5 OUT

## TMP117AIDRVR
designator *
pins: 1 SCL, 2 GND (power), 3 ALERT, 4 ADD0, 5 V+ (power), 6 SDA, 7 EXP (power)

## TMP117NAIYBGR
designator U?, comment TMP117
pins: A1 SDA (io), A2 SCL (in), B1 V+ (power), B2 GND (power), C1 ADD0 (in), C2 ALERT (out)

## TMP235AEDCKRQ1
designator *
pins: 1 NC, 2 GND, 3 VOUT, 4 VDD, 5 NC

## TMP421
designator U?
footprint SOT-23-8 (TSOP, 8-Leads, Body 2.90x1.60mm, Pitch 0.65mm, IPC Medium Density)
pins: 1 DXPP, 2 DXPN, 3 A1, 4 A0, 5 GND (power), 6 SDA (io), 7 SCL (in), 8 V+ (power)

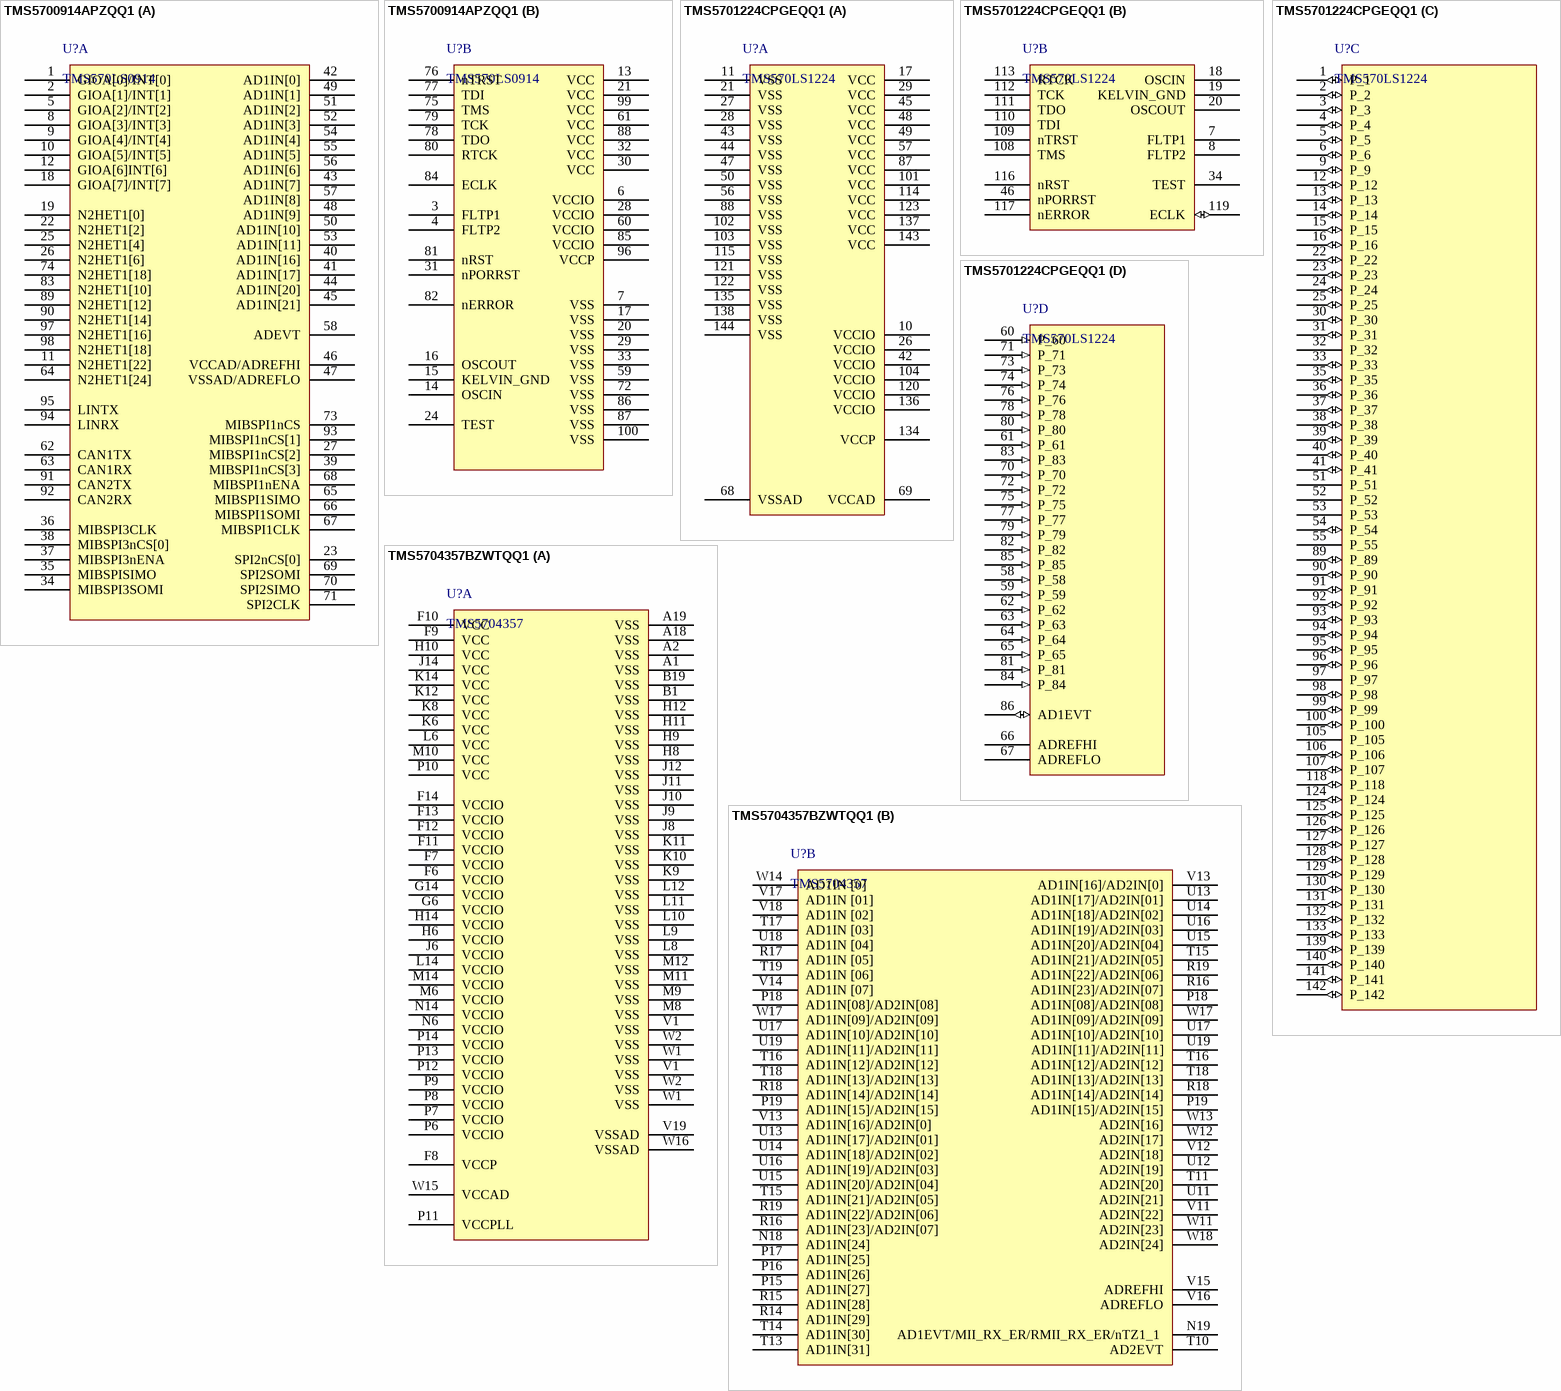
[diagram p4: symbols TMS5700914APZQQ1 to TMS5704357BZWTQQ1]

## TMS5700914APZQQ1
designator U?, comment TMS570LS0914
part A pins: 1 GIOA[0]/INT[0], 2 GIOA[1]/INT[1], 5 GIOA[2]/INT[2], 8 GIOA[3]/INT[3], 9 GIOA[4]/INT[4], 10 GIOA[5]/INT[5], 11 N2HET1[22], 12 GIOA[6]INT[6], 18 GIOA[7]/INT[7], 19 N2HET1[0], 22 N2HET1[2], 23 SPI2nCS[0], 25 N2HET1[4], 26 N2HET1[6], 27 MIBSPI1nCS[2], 34 MIBSPI3SOMI, 35 MIBSPISIMO, 36 MIBSPI3CLK, 37 MIBSPI3nENA, 38 MIBSPI3nCS[0], 39 MIBSPI1nCS[3], 40 AD1IN[16], 41 AD1IN[17], 42 AD1IN[0], 43 AD1IN[7], 44 AD1IN[20], 45 AD1IN[21], 46 VCCAD/ADREFHI, 47 VSSAD/ADREFLO, 48 AD1IN[9], 49 AD1IN[1], 50 AD1IN[10], 51 AD1IN[2], 52 AD1IN[3], 53 AD1IN[11], 54 AD1IN[4], 55 AD1IN[5], 56 AD1IN[6], 57 AD1IN[8], 58 ADEVT, 62 CAN1TX, 63 CAN1RX, 64 N2HET1[24], 65 MIBSPI1SIMO, 66 MIBSPI1SOMI, 67 MIBSPI1CLK, 68 MIBSPI1nENA, 69 SPI2SOMI, 70 SPI2SIMO, 71 SPI2CLK, 73 MIBSPI1nCS, 74 N2HET1[18], 83 N2HET1[10], 89 N2HET1[12], 90 N2HET1[14], 91 CAN2TX, 92 CAN2RX, 93 MIBSPI1nCS[1], 94 LINRX, 95 LINTX, 97 N2HET1[16], 98 N2HET1[18]
part B pins: 3 FLTP1, 4 FLTP2, 6 VCCIO, 7 VSS, 13 VCC, 14 OSCIN, 15 KELVIN_GND, 16 OSCOUT, 17 VSS, 20 VSS, 21 VCC, 24 TEST, 28 VCCIO, 29 VSS, 30 VCC, 31 nPORRST, 32 VCC, 33 VSS, 59 VSS, 60 VCCIO, 61 VCC, 72 VSS, 75 TMS, 76 nTRST, 77 TDI, 78 TDO, 79 TCK, 80 RTCK, 81 nRST, 82 nERROR, 84 ECLK, 85 VCCIO, 86 VSS, 87 VSS, 88 VCC, 96 VCCP, 99 VCC, 100 VSS

## TMS5701224CPGEQQ1
designator U?, comment TMS570LS1224
part A pins: 10 VCCIO (power), 11 VSS (power), 17 VCC (power), 21 VSS (power), 26 VCCIO (power), 27 VSS (power), 28 VSS (power), 29 VCC (power), 42 VCCIO (power), 43 VSS (power), 44 VSS (power), 45 VCC (power), 47 VSS (power), 48 VCC (power), 49 VCC (power), 50 VSS (power), 56 VSS (power), 57 VCC (power), 68 VSSAD (power), 69 VCCAD (power), 87 VCC (power), 88 VSS (power), 101 VCC (power), 102 VSS (power), 103 VSS (power), 104 VCCIO (power), 114 VCC (power), 115 VSS (power), 120 VCCIO (power), 121 VSS (power), 122 VSS (power), 123 VCC (power), 134 VCCP (power), 135 VSS (power), 136 VCCIO (power), 137 VCC (power), 138 VSS (power), 143 VCC (power), 144 VSS (power)
part B pins: 7 FLTP1, 8 FLTP2, 18 OSCIN, 19 KELVIN_GND, 20 OSCOUT, 34 TEST, 46 nPORRST, 108 TMS, 109 nTRST, 110 TDI, 111 TDO, 112 TCK, 113 RTCK, 116 nRST, 117 nERROR, 119 ECLK (io)
part C pins: 1 P_1 (io), 2 P_2 (io), 3 P_3 (io), 4 P_4 (io), 5 P_5 (io), 6 P_6 (io), 9 P_9 (io), 12 P_12 (io), 13 P_13 (io), 14 P_14 (io), 15 P_15 (io), 16 P_16 (io), 22 P_22 (io), 23 P_23 (io), 24 P_24 (io), 25 P_25 (io), 30 P_30 (io), 31 P_31 (io), 32 P_32, 33 P_33 (io), 35 P_35 (io), 36 P_36 (io), 37 P_37 (io), 38 P_38 (io), 39 P_39 (io), 40 P_40 (io), 41 P_41 (io), 51 P_51, 52 P_52, 53 P_53, 54 P_54 (io), 55 P_55, 89 P_89 (io), 90 P_90 (io), 91 P_91 (io), 92 P_92 (io), 93 P_93 (io), 94 P_94 (io), 95 P_95 (io), 96 P_96 (io), 97 P_97, 98 P_98 (io), 99 P_99 (io), 100 P_100 (io), 105 P_105, 106 P_106 (io), 107 P_107 (io), 118 P_118 (io), 124 P_124 (io), 125 P_125 (io), 126 P_126 (io), 127 P_127 (io), 128 P_128 (io), 129 P_129 (io), 130 P_130 (io), 131 P_131 (io), 132 P_132 (io), 133 P_133 (io), 139 P_139 (io), 140 P_140 (io), 141 P_141 (io), 142 P_142 (io)
part D pins: 58 P_58 (in), 59 P_59 (in), 60 P_60 (in), 61 P_61 (in), 62 P_62 (in), 63 P_63 (in), 64 P_64 (in), 65 P_65 (in), 66 ADREFHI (power), 67 ADREFLO (power), 70 P_70 (in), 71 P_71 (in), 72 P_72 (in), 73 P_73 (in), 74 P_74 (in), 75 P_75 (in), 76 P_76 (in), 77 P_77 (in), 78 P_78 (in), 79 P_79 (in), 80 P_80 (in), 81 P_81 (in), 82 P_82 (in), 83 P_83 (in), 84 P_84 (in), 85 P_85 (in), 86 AD1EVT (io)

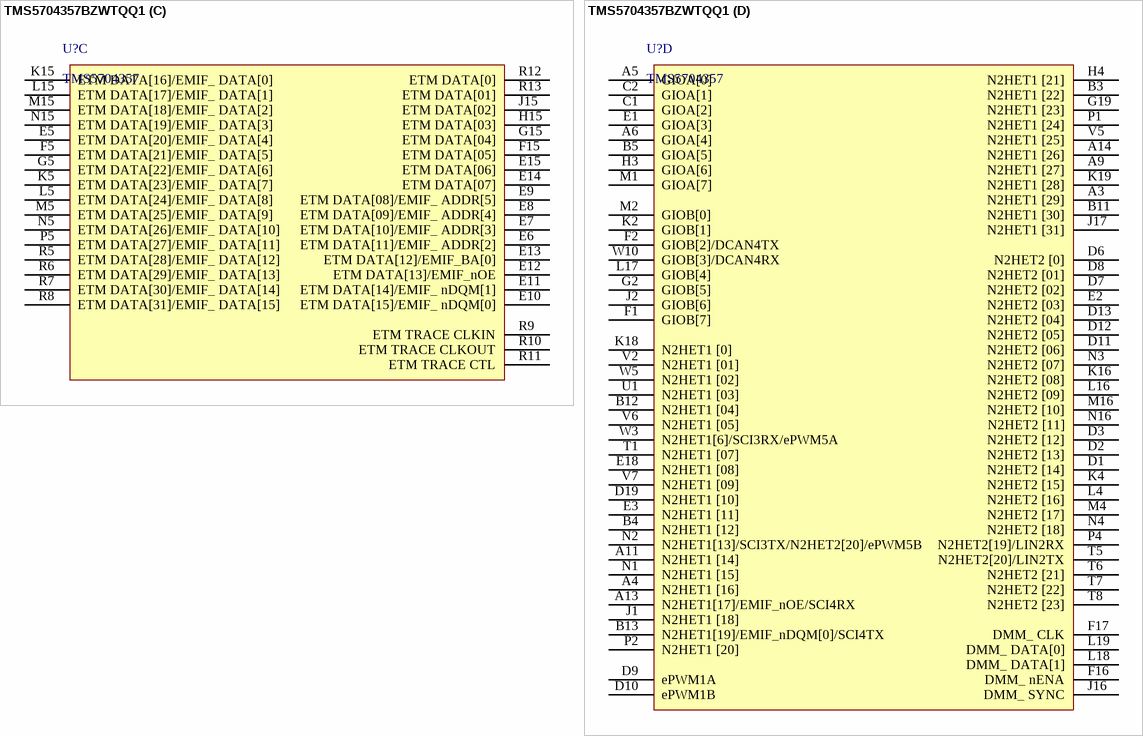
[diagram p5: symbol TMS5704357BZWTQQ1]

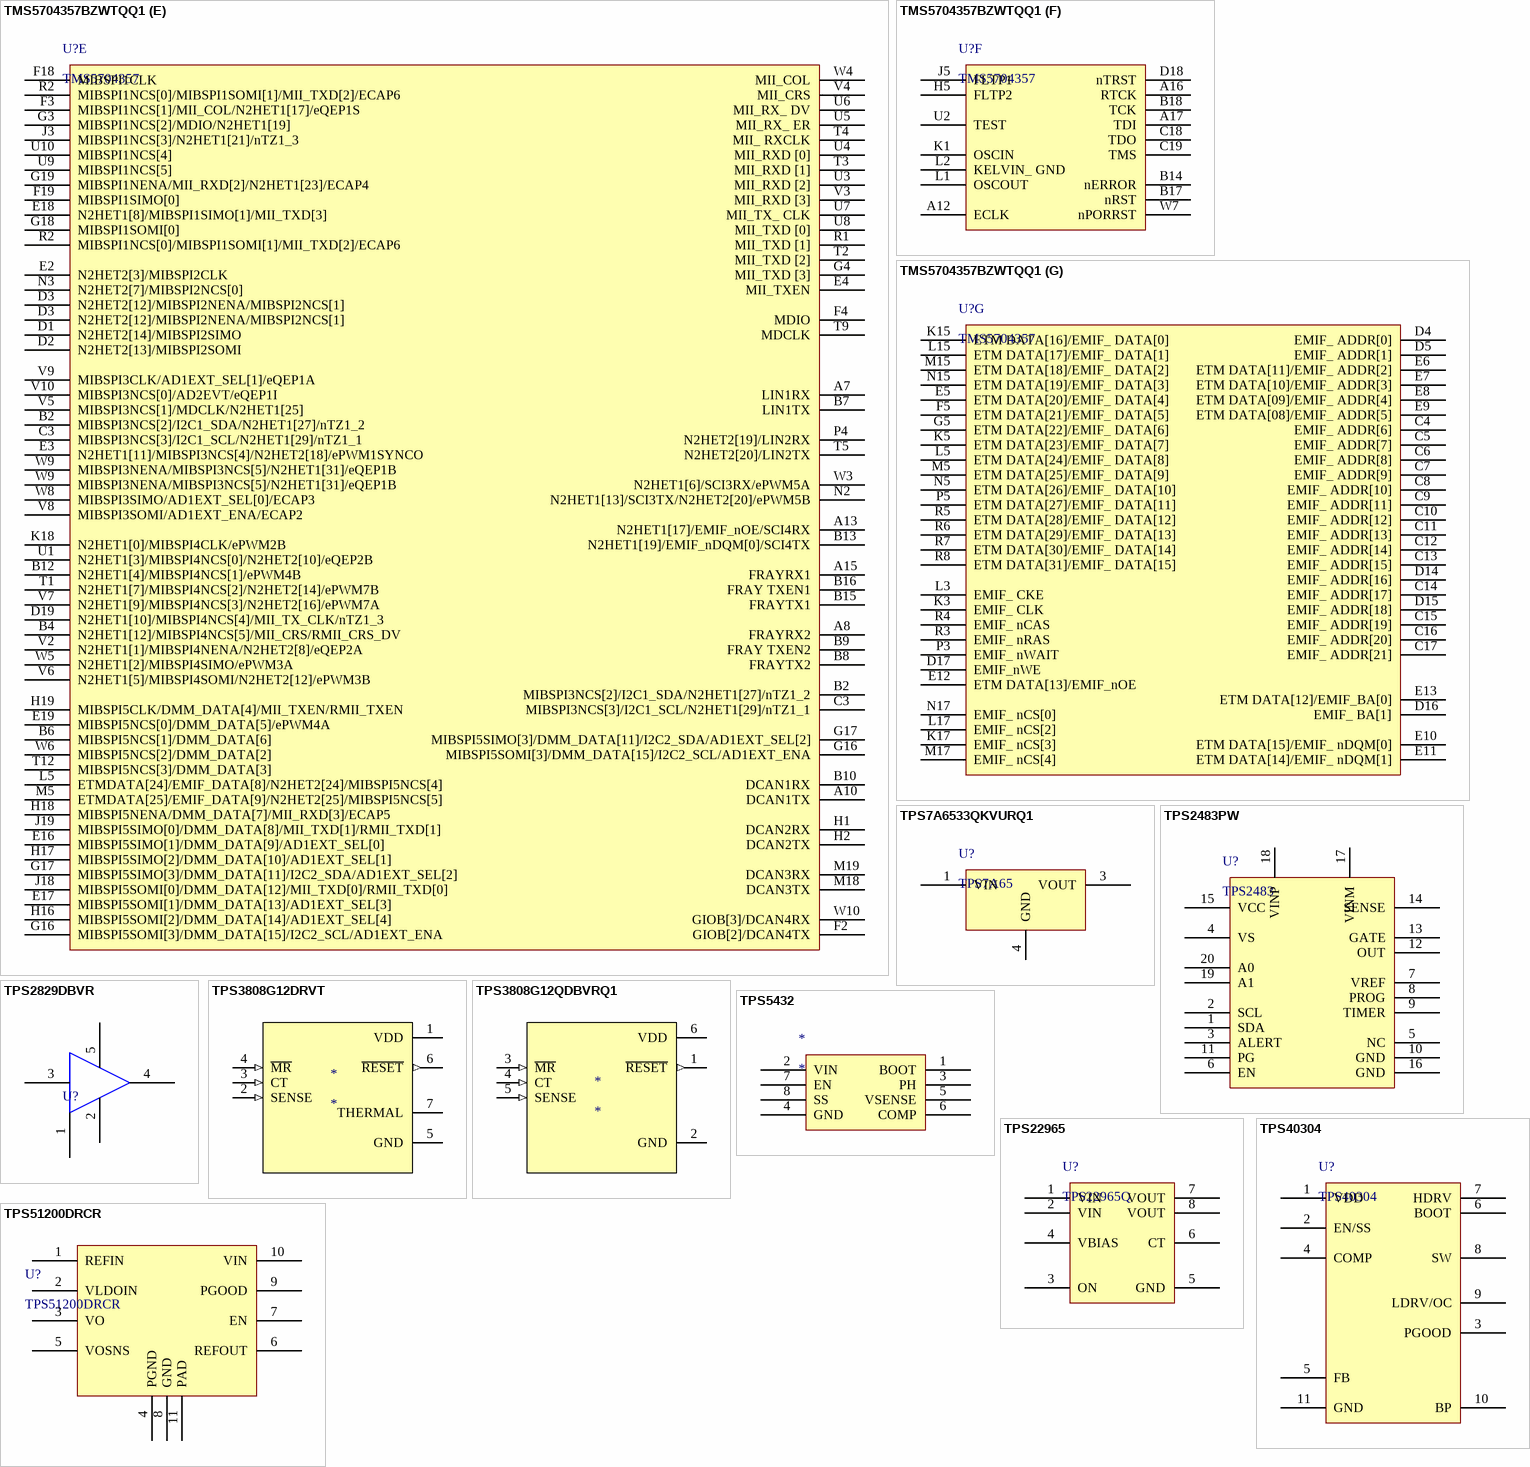
[diagram p6: symbols TMS5704357BZWTQQ1 to TPS51200DRCR]

## TMS5704357BZWTQQ1
designator U?, comment TMS5704357
part A pins: A1 VSS, A2 VSS, A18 VSS, A19 VSS, B1 VSS, B19 VSS, F6 VCCIO, F7 VCCIO, F8 VCCP, F9 VCC, F10 VCC, F11 VCCIO, F12 VCCIO, F13 VCCIO, F14 VCCIO, G6 VCCIO, G14 VCCIO, H6 VCCIO, H8 VSS, H9 VSS, H10 VCC, H11 VSS, H12 VSS, H14 VCCIO, J6 VCCIO, J8 VSS, J9 VSS, J10 VSS, J11 VSS, J12 VSS, J14 VCC, K6 VCC, K8 VCC, K9 VSS, K10 VSS, K11 VSS, K12 VCC, K14 VCC, L6 VCC, L8 VSS, L9 VSS, L10 VSS, L11 VSS, L12 VSS, L14 VCCIO, M6 VCCIO, M8 VSS, M9 VSS, M10 VCC, M11 VSS, M12 VSS, M14 VCCIO, N6 VCCIO, N14 VCCIO, P6 VCCIO, P7 VCCIO, P8 VCCIO, P9 VCCIO, P10 VCC, P11 VCCPLL, P12 VCCIO, P13 VCCIO, P14 VCCIO, V1 VSS, V1 VSS, V19 VSSAD, W1 VSS, W1 VSS, W2 VSS, W2 VSS, W15 VCCAD, W16 VSSAD
part B pins: N18 AD1IN[24], N19 AD1EVT/MII_RX_ER/RMII_RX_ER/nTZ1_1 , P15 AD1IN[27], P16 AD1IN[26], P17 AD1IN[25], P18 AD1IN[08]/AD2IN[08], P18 AD1IN[08]/AD2IN[08], P19 AD1IN[15]/AD2IN[15], P19 AD1IN[15]/AD2IN[15], R14 AD1IN[29], R15 AD1IN[28], R16 AD1IN[23]/AD2IN[07], R16 AD1IN[23]/AD2IN[07], R17 AD1IN [05], R18 AD1IN[14]/AD2IN[14], R18 AD1IN[14]/AD2IN[14], R19 AD1IN[22]/AD2IN[06], R19 AD1IN[22]/AD2IN[06], T10 AD2EVT, T11 AD2IN[20], T13 AD1IN[31], T14 AD1IN[30], T15 AD1IN[21]/AD2IN[05], T15 AD1IN[21]/AD2IN[05], T16 AD1IN[12]/AD2IN[12], T16 AD1IN[12]/AD2IN[12], T17 AD1IN [03], T18 AD1IN[13]/AD2IN[13], T18 AD1IN[13]/AD2IN[13], T19 AD1IN [06], U11 AD2IN[21], U12 AD2IN[19], U13 AD1IN[17]/AD2IN[01], U13 AD1IN[17]/AD2IN[01], U14 AD1IN[18]/AD2IN[02], U14 AD1IN[18]/AD2IN[02], U15 AD1IN[20]/AD2IN[04], U15 AD1IN[20]/AD2IN[04], U16 AD1IN[19]/AD2IN[03], U16 AD1IN[19]/AD2IN[03], U17 AD1IN[10]/AD2IN[10], U17 AD1IN[10]/AD2IN[10], U18 AD1IN [04], U19 AD1IN[11]/AD2IN[11], U19 AD1IN[11]/AD2IN[11], V11 AD2IN[22], V12 AD2IN[18], V13 AD1IN[16]/AD2IN[0], V13 AD1IN[16]/AD2IN[0], V14 AD1IN [07], V15 ADREFHI, V16 ADREFLO, V17 AD1IN [01], V18 AD1IN [02], W11 AD2IN[23], W12 AD2IN[17], W13 AD2IN[16], W14 AD1IN [0], W17 AD1IN[09]/AD2IN[09], W17 AD1IN[09]/AD2IN[09], W18 AD2IN[24]
part C pins: E5 ETM DATA[20]/EMIF_ DATA[4], E6 ETM DATA[11]/EMIF_ ADDR[2], E7 ETM DATA[10]/EMIF_ ADDR[3], E8 ETM DATA[09]/EMIF_ ADDR[4], E9 ETM DATA[08]/EMIF_ ADDR[5], E10 ETM DATA[15]/EMIF_ nDQM[0], E11 ETM DATA[14]/EMIF_ nDQM[1], E12 ETM DATA[13]/EMIF_nOE, E13 ETM DATA[12]/EMIF_BA[0], E14 ETM DATA[07], E15 ETM DATA[06], F5 ETM DATA[21]/EMIF_ DATA[5], F15 ETM DATA[05], G5 ETM DATA[22]/EMIF_ DATA[6], G15 ETM DATA[04], H15 ETM DATA[03], J15 ETM DATA[02], K5 ETM DATA[23]/EMIF_ DATA[7], K15 ETM DATA[16]/EMIF_ DATA[0], L5 ETM DATA[24]/EMIF_ DATA[8], L15 ETM DATA[17]/EMIF_ DATA[1], M5 ETM DATA[25]/EMIF_ DATA[9], M15 ETM DATA[18]/EMIF_ DATA[2], N5 ETM DATA[26]/EMIF_ DATA[10], N15 ETM DATA[19]/EMIF_ DATA[3], P5 ETM DATA[27]/EMIF_ DATA[11], R5 ETM DATA[28]/EMIF_ DATA[12], R6 ETM DATA[29]/EMIF_ DATA[13], R7 ETM DATA[30]/EMIF_ DATA[14], R8 ETM DATA[31]/EMIF_ DATA[15], R9 ETM TRACE CLKIN, R10 ETM TRACE CLKOUT, R11 ETM TRACE CTL, R12 ETM DATA[0], R13 ETM DATA[01]
part D pins: A3 N2HET1 [29], A4 N2HET1 [16], A5 GIOA[0], A6 GIOA[4], A9 N2HET1 [27], A11 N2HET1 [14], A13 N2HET1[17]/EMIF_nOE/SCI4RX, A14 N2HET1 [26], B3 N2HET1 [22], B4 N2HET1 [12], B5 GIOA[5], B11 N2HET1 [30], B12 N2HET1 [04], B13 N2HET1[19]/EMIF_nDQM[0]/SCI4TX, C1 GIOA[2], C2 GIOA[1], D1 N2HET2 [14], D2 N2HET2 [13], D3 N2HET2 [12], D6 N2HET2 [0], D7 N2HET2 [02], D8 N2HET2 [01], D9 ePWM1A, D10 ePWM1B, D11 N2HET2 [06], D12 N2HET2 [05], D13 N2HET2 [04], D19 N2HET1 [10], E1 GIOA[3], E2 N2HET2 [03], E3 N2HET1 [11], E18 N2HET1 [08], F1 GIOB[7], F2 GIOB[2]/DCAN4TX, F16 DMM_ nENA, F17 DMM_ CLK, G2 GIOB[5], G19 N2HET1 [23], H3 GIOA[6], H4 N2HET1 [21], J1 N2HET1 [18], J2 GIOB[6], J16 DMM_ SYNC, J17 N2HET1 [31], K2 GIOB[1], K4 N2HET2 [15], K16 N2HET2 [08], K18 N2HET1 [0], K19 N2HET1 [28], L4 N2HET2 [16], L16 N2HET2 [09], L17 GIOB[4], L18 DMM_ DATA[1], L19 DMM_ DATA[0], M1 GIOA[7], M2 GIOB[0], M4 N2HET2 [17], M16 N2HET2 [10], N1 N2HET1 [15], N2 N2HET1[13]/SCI3TX/N2HET2[20]/ePWM5B, N3 N2HET2 [07], N4 N2HET2 [18], N16 N2HET2 [11], P1 N2HET1 [24], P2 N2HET1 [20], P4 N2HET2[19]/LIN2RX, T1 N2HET1 [07], T5 N2HET2[20]/LIN2TX, T6 N2HET2 [21], T7 N2HET2 [22], T8 N2HET2 [23], U1 N2HET1 [03], V2 N2HET1 [01], V5 N2HET1 [25], V6 N2HET1 [05], V7 N2HET1 [09], W3 N2HET1[6]/SCI3RX/ePWM5A, W5 N2HET1 [02], W10 GIOB[3]/DCAN4RX
part E pins: A7 LIN1RX, A8 FRAYRX2, A10 DCAN1TX, A13 N2HET1[17]/EMIF_nOE/SCI4RX, A15 FRAYRX1, B2 MIBSPI3NCS[2]/I2C1_SDA/N2HET1[27]/nTZ1_2, B2 MIBSPI3NCS[2]/I2C1_SDA/N2HET1[27]/nTZ1_2, B4 N2HET1[12]/MIBSPI4NCS[5]/MII_CRS/RMII_CRS_DV, B6 MIBSPI5NCS[1]/DMM_DATA[6], B7 LIN1TX, B8 FRAYTX2, B9 FRAY TXEN2, B10 DCAN1RX, B12 N2HET1[4]/MIBSPI4NCS[1]/ePWM4B, B13 N2HET1[19]/EMIF_nDQM[0]/SCI4TX, B15 FRAYTX1, B16 FRAY TXEN1, C3 MIBSPI3NCS[3]/I2C1_SCL/N2HET1[29]/nTZ1_1, C3 MIBSPI3NCS[3]/I2C1_SCL/N2HET1[29]/nTZ1_1, D1 N2HET2[14]/MIBSPI2SIMO, D2 N2HET2[13]/MIBSPI2SOMI, D3 N2HET2[12]/MIBSPI2NENA/MIBSPI2NCS[1], D3 N2HET2[12]/MIBSPI2NENA/MIBSPI2NCS[1], D19 N2HET1[10]/MIBSPI4NCS[4]/MII_TX_CLK/nTZ1_3, E2 N2HET2[3]/MIBSPI2CLK, E3 N2HET1[11]/MIBSPI3NCS[4]/N2HET2[18]/ePWM1SYNCO, E4 MII_TXEN, E16 MIBSPI5SIMO[1]/DMM_DATA[9]/AD1EXT_SEL[0], E17 MIBSPI5SOMI[1]/DMM_DATA[13]/AD1EXT_SEL[3], E18 N2HET1[8]/MIBSPI1SIMO[1]/MII_TXD[3], E19 MIBSPI5NCS[0]/DMM_DATA[5]/ePWM4A, F2 GIOB[2]/DCAN4TX, F3 MIBSPI1NCS[1]/MII_COL/N2HET1[17]/eQEP1S, F4 MDIO, F18 MIBSPI1CLK, F19 MIBSPI1SIMO[0], G3 MIBSPI1NCS[2]/MDIO/N2HET1[19], G4 MII_TXD [3], G16 MIBSPI5SOMI[3]/DMM_DATA[15]/I2C2_SCL/AD1EXT_ENA, G16 MIBSPI5SOMI[3]/DMM_DATA[15]/I2C2_SCL/AD1EXT_ENA, G17 MIBSPI5SIMO[3]/DMM_DATA[11]/I2C2_SDA/AD1EXT_SEL[2], G17 MIBSPI5SIMO[3]/DMM_DATA[11]/I2C2_SDA/AD1EXT_SEL[2], G18 MIBSPI1SOMI[0], G19 MIBSPI1NENA/MII_RXD[2]/N2HET1[23]/ECAP4, H1 DCAN2RX, H2 DCAN2TX, H16 MIBSPI5SOMI[2]/DMM_DATA[14]/AD1EXT_SEL[4], H17 MIBSPI5SIMO[2]/DMM_DATA[10]/AD1EXT_SEL[1], H18 MIBSPI5NENA/DMM_DATA[7]/MII_RXD[3]/ECAP5, H19 MIBSPI5CLK/DMM_DATA[4]/MII_TXEN/RMII_TXEN, J3 MIBSPI1NCS[3]/N2HET1[21]/nTZ1_3, J18 MIBSPI5SOMI[0]/DMM_DATA[12]/MII_TXD[0]/RMII_TXD[0], J19 MIBSPI5SIMO[0]/DMM_DATA[8]/MII_TXD[1]/RMII_TXD[1], K18 N2HET1[0]/MIBSPI4CLK/ePWM2B, L5 ETMDATA[24]/EMIF_DATA[8]/N2HET2[24]/MIBSPI5NCS[4], M5 ETMDATA[25]/EMIF_DATA[9]/N2HET2[25]/MIBSPI5NCS[5], M18 DCAN3TX, M19 DCAN3RX, N2 N2HET1[13]/SCI3TX/N2HET2[20]/ePWM5B, N3 N2HET2[7]/MIBSPI2NCS[0], P4 N2HET2[19]/LIN2RX, R1 MII_TXD [1], R2 MIBSPI1NCS[0]/MIBSPI1SOMI[1]/MII_TXD[2]/ECAP6, R2 MIBSPI1NCS[0]/MIBSPI1SOMI[1]/MII_TXD[2]/ECAP6, T1 N2HET1[7]/MIBSPI4NCS[2]/N2HET2[14]/ePWM7B, T2 MII_TXD [2], T3 MII_RXD [1], T4 MII_ RXCLK, T5 N2HET2[20]/LIN2TX, T9 MDCLK, T12 MIBSPI5NCS[3]/DMM_DATA[3], U1 N2HET1[3]/MIBSPI4NCS[0]/N2HET2[10]/eQEP2B, U3 MII_RXD [2], U4 MII_RXD [0], U5 MII_RX_ ER, U6 MII_RX_ DV, U7 MII_TX_ CLK, U8 MII_TXD [0], U9 MIBSPI1NCS[5], U10 MIBSPI1NCS[4], V2 N2HET1[1]/MIBSPI4NENA/N2HET2[8]/eQEP2A, V3 MII_RXD [3], V4 MII_CRS, V5 MIBSPI3NCS[1]/MDCLK/N2HET1[25], V6 N2HET1[5]/MIBSPI4SOMI/N2HET2[12]/ePWM3B, V7 N2HET1[9]/MIBSPI4NCS[3]/N2HET2[16]/ePWM7A, V8 MIBSPI3SOMI/AD1EXT_ENA/ECAP2, V9 MIBSPI3CLK/AD1EXT_SEL[1]/eQEP1A, V10 MIBSPI3NCS[0]/AD2EVT/eQEP1I, W3 N2HET1[6]/SCI3RX/ePWM5A, W4 MII_COL, W5 N2HET1[2]/MIBSPI4SIMO/ePWM3A, W6 MIBSPI5NCS[2]/DMM_DATA[2], W8 MIBSPI3SIMO/AD1EXT_SEL[0]/ECAP3, W9 MIBSPI3NENA/MIBSPI3NCS[5]/N2HET1[31]/eQEP1B, W9 MIBSPI3NENA/MIBSPI3NCS[5]/N2HET1[31]/eQEP1B, W10 GIOB[3]/DCAN4RX
part F pins: A12 ECLK, A16 RTCK, A17 TDI, B14 nERROR, B17 nRST, B18 TCK, C18 TDO, C19 TMS, D18 nTRST, H5 FLTP2, J5 FLTP1, K1 OSCIN, L1 OSCOUT, L2 KELVIN_ GND, U2 TEST, W7 nPORRST
part G pins: C4 EMIF_ ADDR[6], C5 EMIF_ ADDR[7], C6 EMIF_ ADDR[8], C7 EMIF_ ADDR[9], C8 EMIF_ ADDR[10], C9 EMIF_ ADDR[11], C10 EMIF_ ADDR[12], C11 EMIF_ ADDR[13], C12 EMIF_ ADDR[14], C13 EMIF_ ADDR[15], C14 EMIF_ ADDR[17], C15 EMIF_ ADDR[19], C16 EMIF_ ADDR[20], C17 EMIF_ ADDR[21], D4 EMIF_ ADDR[0], D5 EMIF_ ADDR[1], D14 EMIF_ ADDR[16], D15 EMIF_ ADDR[18], D16 EMIF_ BA[1], D17 EMIF_nWE, E5 ETM DATA[20]/EMIF_ DATA[4], E6 ETM DATA[11]/EMIF_ ADDR[2], E7 ETM DATA[10]/EMIF_ ADDR[3], E8 ETM DATA[09]/EMIF_ ADDR[4], E9 ETM DATA[08]/EMIF_ ADDR[5], E10 ETM DATA[15]/EMIF_ nDQM[0], E11 ETM DATA[14]/EMIF_ nDQM[1], E12 ETM DATA[13]/EMIF_nOE, E13 ETM DATA[12]/EMIF_BA[0], F5 ETM DATA[21]/EMIF_ DATA[5], G5 ETM DATA[22]/EMIF_ DATA[6], K3 EMIF_ CLK, K5 ETM DATA[23]/EMIF_ DATA[7], K15 ETM DATA[16]/EMIF_ DATA[0], K17 EMIF_ nCS[3], L3 EMIF_ CKE, L5 ETM DATA[24]/EMIF_ DATA[8], L15 ETM DATA[17]/EMIF_ DATA[1], L17 EMIF_ nCS[2], M5 ETM DATA[25]/EMIF_ DATA[9], M15 ETM DATA[18]/EMIF_ DATA[2], M17 EMIF_ nCS[4], N5 ETM DATA[26]/EMIF_ DATA[10], N15 ETM DATA[19]/EMIF_ DATA[3], N17 EMIF_ nCS[0], P3 EMIF_ nWAIT, P5 ETM DATA[27]/EMIF_ DATA[11], R3 EMIF_ nRAS, R4 EMIF_ nCAS, R5 ETM DATA[28]/EMIF_ DATA[12], R6 ETM DATA[29]/EMIF_ DATA[13], R7 ETM DATA[30]/EMIF_ DATA[14], R8 ETM DATA[31]/EMIF_ DATA[15]

## TPS7A6533QKVURQ1
designator U?, comment TPS7A65
pins: 1 VIN, 3 VOUT, 4 GND

## TPS2483PW
designator U?, comment TPS2483
pins: 1 SDA, 2 SCL, 3 ALERT, 4 VS, 5 NC, 6 EN, 7 VREF, 8 PROG, 9 TIMER, 10 GND, 11 PG, 12 OUT, 13 GATE, 14 SENSE, 15 VCC, 16 GND, 17 VINM, 18 VINP, 19 A1, 20 A0

## TPS2829DBVR
designator U?  (value not drawn)
pins: 1, 2, 3, 4, 5

## TPS3808G12DRVT
designator *
pins: 1 VDD (power), 2 SENSE (in), 3 CT (in), 4 ~{MR} (in), 5 GND (power), 6 ~{RESET} (out), 7 THERMAL (power)

## TPS3808G12QDBVRQ1
designator *
pins: 1 ~{RESET} (out), 2 GND (power), 3 ~{MR} (in), 4 CT (in), 5 SENSE (in), 6 VDD (power)

## TPS5432
designator *
pins: 1 BOOT, 2 VIN, 3 PH, 4 GND, 5 VSENSE, 6 COMP, 7 EN, 8 SS

## TPS22965
designator U?, comment TPS22965Q
pins: 1 VIN, 2 VIN, 3 ON, 4 VBIAS, 5 GND, 6 CT, 7 VOUT, 8 VOUT

## TPS40304
designator U?
pins: 1 VDD, 2 EN/SS, 3 PGOOD, 4 COMP, 5 FB, 6 BOOT, 7 HDRV, 8 SW, 9 LDRV/OC, 10 BP, 11 GND

## TPS51200DRCR
designator U?
pins: 1 REFIN, 2 VLDOIN, 3 VO, 4 PGND, 5 VOSNS, 6 REFOUT, 7 EN, 8 GND, 9 PGOOD, 10 VIN, 11 PAD

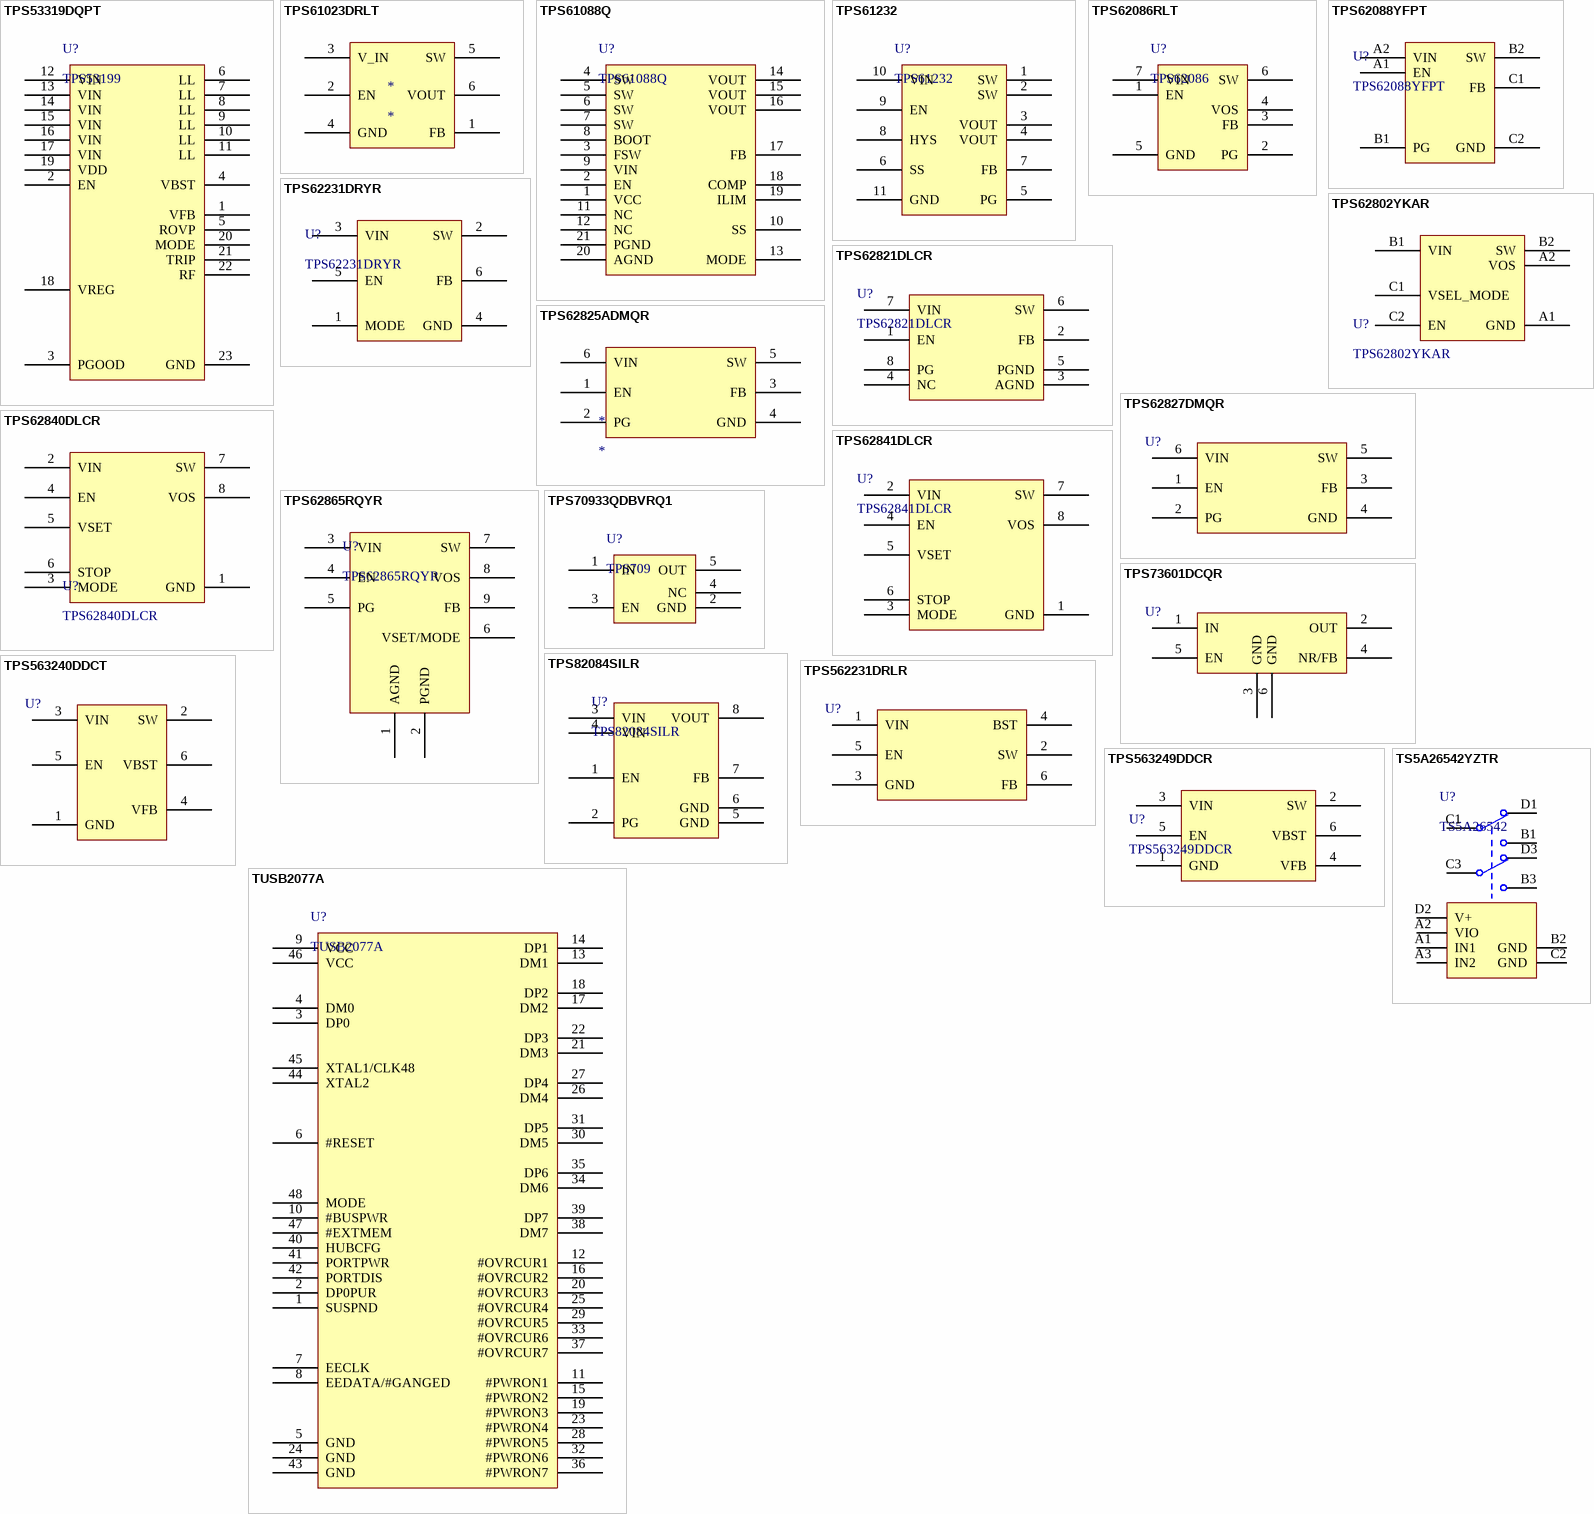
[diagram p7: symbols TPS53319DQPT to TUSB2077A]

## TPS53319DQPT
designator U?, comment TPS53199
pins: 1 VFB, 2 EN, 3 PGOOD, 4 VBST, 5 ROVP, 6 LL, 7 LL, 8 LL, 9 LL, 10 LL, 11 LL, 12 VIN, 13 VIN, 14 VIN, 15 VIN, 16 VIN, 17 VIN, 18 VREG, 19 VDD, 20 MODE, 21 TRIP, 22 RF, 23 GND

## TPS61023DRLT
designator *
pins: 1 FB, 2 EN, 3 V_IN, 4 GND, 5 SW, 6 VOUT

## TPS61088Q
designator U?
pins: 1 VCC, 2 EN, 3 FSW, 4 SW, 5 SW, 6 SW, 7 SW, 8 BOOT, 9 VIN, 10 SS, 11 NC, 12 NC, 13 MODE, 14 VOUT, 15 VOUT, 16 VOUT, 17 FB, 18 COMP, 19 ILIM, 20 AGND, 21 PGND

## TPS61232
designator U?
pins: 1 SW, 2 SW, 3 VOUT, 4 VOUT, 5 PG, 6 SS, 7 FB, 8 HYS, 9 EN, 10 VIN, 11 GND

## TPS62086RLT
designator U?, comment TPS62086
pins: 1 EN, 2 PG, 3 FB, 4 VOS, 5 GND, 6 SW, 7 VIN

## TPS62088YFPT
designator U?
pins: A1 EN, A2 VIN, B1 PG, B2 SW, C1 FB, C2 GND

## TPS62231DRYR
designator U?
pins: 1 MODE, 2 SW, 3 VIN, 4 GND, 5 EN, 6 FB

## TPS62802YKAR
designator U?
pins: A1 GND, A2 VOS, B1 VIN, B2 SW, C1 VSEL_MODE, C2 EN

## TPS62821DLCR
designator U?
pins: 1 EN, 2 FB, 3 AGND, 4 NC, 5 PGND, 6 SW, 7 VIN, 8 PG

## TPS62825ADMQR
designator *
pins: 1 EN, 2 PG, 3 FB, 4 GND, 5 SW, 6 VIN

## TPS62827DMQR
designator U?  (value not drawn)
pins: 1 EN, 2 PG, 3 FB, 4 GND, 5 SW, 6 VIN

## TPS62840DLCR
designator U?
pins: 1 GND, 2 VIN, 3 MODE, 4 EN, 5 VSET, 6 STOP, 7 SW, 8 VOS

## TPS62841DLCR
designator U?
pins: 1 GND, 2 VIN, 3 MODE, 4 EN, 5 VSET, 6 STOP, 7 SW, 8 VOS

## TPS62865RQYR
designator U?
pins: 1 AGND, 2 PGND, 3 VIN, 4 EN, 5 PG, 6 VSET/MODE, 7 SW, 8 VOS, 9 FB

## TPS70933QDBVRQ1
designator U?, comment TPS709
pins: 1 IN, 2 GND, 3 EN, 4 NC, 5 OUT

## TPS73601DCQR
designator U?  (value not drawn)
pins: 1 IN, 2 OUT, 3 GND, 4 NR/FB, 5 EN, 6 GND

## TPS82084SILR
designator U?
pins: 1 EN, 2 PG, 3 VIN, 4 VIN, 5 GND, 6 GND, 7 FB, 8 VOUT

## TPS562231DRLR
designator U?  (value not drawn)
pins: 1 VIN, 2 SW, 3 GND, 4 BST, 5 EN, 6 FB

## TPS563240DDCT
designator U?  (value not drawn)
pins: 1 GND, 2 SW, 3 VIN, 4 VFB, 5 EN, 6 VBST

## TPS563249DDCR
designator U?
pins: 1 GND, 2 SW, 3 VIN, 4 VFB, 5 EN, 6 VBST

## TS5A26542YZTR
designator U?, comment TS5A26542
pins: A1 IN1, A2 VIO, A3 IN2, B1 NO1, B2 GND, B3 NO2, C1 COM1, C2 GND, C3 COM2, D1 NC1, D2 V+, D3 NC2

## TUSB2077A
designator U?
pins: 1 SUSPND, 2 DP0PUR, 3 DP0, 4 DM0, 5 GND, 6 #RESET, 7 EECLK, 8 EEDATA/#GANGED, 9 VCC, 10 #BUSPWR, 11 #PWRON1, 12 #OVRCUR1, 13 DM1, 14 DP1, 15 #PWRON2, 16 #OVRCUR2, 17 DM2, 18 DP2, 19 #PWRON3, 20 #OVRCUR3, 21 DM3, 22 DP3, 23 #PWRON4, 24 GND, 25 #OVRCUR4, 26 DM4, 27 DP4, 28 #PWRON5, 29 #OVRCUR5, 30 DM5, 31 DP5, 32 #PWRON6, 33 #OVRCUR6, 34 DM6, 35 DP6, 36 #PWRON7, 37 #OVRCUR7, 38 DM7, 39 DP7, 40 HUBCFG, 41 PORTPWR, 42 PORTDIS, 43 GND, 44 XTAL2, 45 XTAL1/CLK48, 46 VCC, 47 #EXTMEM, 48 MODE